# Altium schematic symbol library Library 3D.SchLib: 259 symbols (part 1 of 2)
Pins are listed as number, name and electrical type; pins without a type are passive.

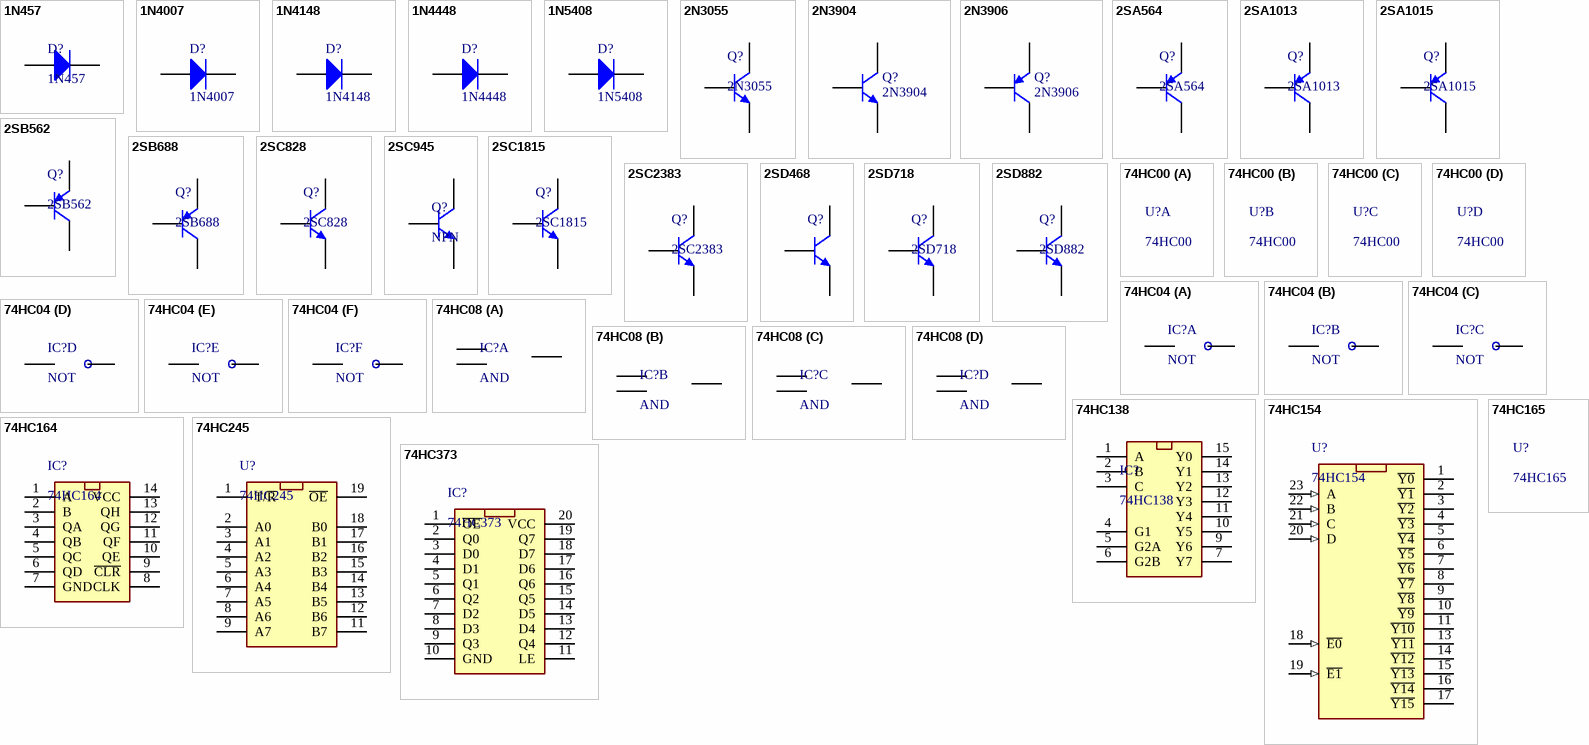
[diagram p0: symbols 1N457 to 74HC373]

## 1N457
designator D?
footprint DO 35
pins: 1 A, 2 K

## 1N4007
designator D?
Published: 8-Jun-2000; LatestRevisionDate: 17-Jul-2002; LatestRevisionNote: Re-released for DXP Platform.; DatasheetVersion: 1998; PackageVersion: Aug-1999; PackageReference: DO-41; Publisher: Altium Limited; PackageDescription: Diode, Axial; Body 5.2 x 2.7 mm (LxDia. max), Lead Dia. 0.86 mm (max); Code_JEDEC: DO-204-AL; ComponentLink1Description: Manufacturer Link; ComponentLink1URL: http://www.fairchildsemi.com/; ComponentLink2Description: Datasheet; ComponentLink2URL: http://www.fairchildsemi.com/ds/1N%2F1N4001.pdf
footprint 1N4007
footprint 1N4003
footprint SOD-123
pins: 1 A, 2 K

## 1N4148
designator D?
Published: 8-Jun-2000; LatestRevisionDate: 17-Jul-2002; LatestRevisionNote: Re-released for DXP Platform.; DatasheetVersion: 1997; PackageReference: DO-35; Publisher: Altium Limited; PackageDescription: Diode, Axial; Body 3.8 x 1.9 mm (LxDia. max), Lead Dia. 0.53 mm (max); Code_JEDEC: DO-204-AH; ComponentLink1Description: Manufacturer Link; ComponentLink1URL: http://www.fairchildsemi.com/; ComponentLink2Description: Datasheet; ComponentLink2URL: http://www.fairchildsemi.com/ds/1N%2F1N4148.pdf
footprint 1N4148
footprint SOD123
footprint SOD-123
footprint SOD80
pins: 1 A, 2 K

## 1N4448
designator D?
Published: 8-Jun-2000; LatestRevisionDate: 17-Jul-2002; LatestRevisionNote: Re-released for DXP Platform.; DatasheetVersion: 1997; PackageReference: DO-35; Publisher: Altium Limited; PackageDescription: Diode, Axial; Body 3.8 x 1.9 mm (LxDia. max), Lead Dia. 0.53 mm (max); Code_JEDEC: DO-204-AH; ComponentLink1Description: Manufacturer Link; ComponentLink1URL: http://www.fairchildsemi.com/; ComponentLink2Description: Datasheet; ComponentLink2URL: http://www.fairchildsemi.com/ds/1N%2F1N4448.pdf
footprint DO 35
pins: 1 A, 2 K

## 1N5408
designator D?
Published: 8-Jun-2000; LatestRevisionDate: 17-Jul-2002; LatestRevisionNote: Re-released for DXP Platform.; DatasheetVersion: Aug-1984; PackageReference: DO-201AD; Publisher: Altium Limited; PackageDescription: Diode, Axial; Body 9.5 x 5.3 mm (LxDia. max), Lead Dia. 1.32 mm (max); ComponentLink1Description: Manufacturer Link; ComponentLink1URL: http://www.irf.com/
footprint 1N5408
pins: 1 A, 2 K

## 2N3055
designator Q?
footprint TO03
pins: 1 E, 2 B, 3 C

## 2N3904
designator Q?
Published: 8-Jun-2000; LatestRevisionDate: 15-Jan-2003; LatestRevisionNote: PCB Footprint 'BCY-W3/D4.7' replaced; DatasheetVersion: 1997; PackageVersion: Sep-1998; PackageReference: TO-92A; Publisher: Altium Limited; PackageDescription: TO, Flat Index; 3 In-Line, Axial Leads; Body Dia. 4.5mm; Leads 0.51 x 0.48 mm (max); ComponentLink1Description: Manufacturer Link; ComponentLink1URL: http://www.fairchildsemi.com/; ComponentLink2Description: Datasheet; ComponentLink2URL: http://www.fairchildsemi.com/ds/2N%2F2N3904.pdf
footprint TO92A
pins: 1 E, 2 B, 3 C

## 2N3906
designator Q?
Published: 8-Jun-2000; LatestRevisionDate: 15-Jan-2003; LatestRevisionNote: PCB Footprint 'BCY-W3/D4.7' replaced; DatasheetVersion: 1997; PackageVersion: Sep-1998; PackageReference: TO-92A; Publisher: Altium Limited; PackageDescription: TO, Flat Index; 3 In-Line, Axial Leads; Body Dia. 4.5mm; Leads 0.51 x 0.48 mm (max); ComponentLink1Description: Manufacturer Link; ComponentLink1URL: http://www.fairchildsemi.com/; ComponentLink2Description: Datasheet; ComponentLink2URL: http://www.fairchildsemi.com/ds/2N%2F2N3906.pdf
footprint TO92A
pins: 1 E, 2 B, 3 C

## 2SA564
designator Q?
footprint TO92A
pins: 1 E, 2 C, 3 B

## 2SA1013
designator Q?
footprint TO226A
footprint SOT23-3
pins: 1 E, 2 C, 3 B

## 2SA1015
designator Q?
footprint TO92A
pins: 1 E, 2 C, 3 B

## 2SB562
designator Q?
footprint TO226A
pins: 1 E, 2 C, 3 B

## 2SB688
designator Q?
footprint TO3P
pins: 1 B, 2 C, 3 E

## 2SC828
designator Q?
footprint TO92A
pins: 1 E, 2 C, 3 B

## 2SC945
designator Q?, comment NPN
footprint TO92A
pins: 1 E, 2 C, 3 B

## 2SC1815
designator Q?
footprint TO92A
pins: 1 E, 2 C, 3 B

## 2SC2383
designator Q?
footprint TO226A
pins: 1 E, 2 C, 3 B

## 2SD468
designator Q?
footprint TO226A
pins: 1 E, 2 C, 3 B

## 2SD718
designator Q?
footprint TO3P
pins: 1 B, 2 C, 3 E

## 2SD882
designator Q?
footprint TO126
pins: 1 E, 2 C, 3 B

## 74HC00
designator U?

## 74HC04
designator IC?, comment NOT
footprint DIP14
footprint SSOP 14
footprint TSSOP 14
part A pins: 1, 2, 7 GND hidden to GND, 14 VCC hidden to VCC
part B pins: 3, 4
part C pins: 5, 6
part D pins: 8, 9
part E pins: 10, 11
part F pins: 12, 13

## 74HC08
designator IC?, comment AND
footprint DIP14
footprint SOIC 14
footprint TSSOP 14
part A pins: 1, 2, 3, 7 GND hidden to GND, 14 VCC hidden to VCC
part B pins: 4, 5, 6
part C pins: 8, 9, 10
part D pins: 11, 12, 13

## 74HC138
designator IC?
footprint DIP16
footprint SOIC 16
pins: 1 A, 2 B, 3 C, 4 G1, 5 G2A, 6 G2B, 7 Y7, 8 GND (power) hidden to GND, 9 Y6, 10 Y5, 11 Y4, 12 Y3, 13 Y2, 14 Y1, 15 Y0, 16 VCC hidden to VCC

## 74HC154
designator U?
footprint DIP24_600
footprint SSOP 24
pins: 1 ~{Y0}, 2 ~{Y1}, 3 ~{Y2}, 4 ~{Y3}, 5 ~{Y4}, 6 ~{Y5}, 7 ~{Y6}, 8 ~{Y7}, 9 ~{Y8}, 10 ~{Y9}, 11 ~{Y10}, 12 GND (power) hidden to GND, 13 ~{Y11}, 14 ~{Y12}, 15 ~{Y13}, 16 ~{Y14}, 17 ~{Y15}, 18 ~{E0} (in), 19 ~{E1} (in), 20 D (in), 21 C (in), 22 B (in), 23 A (in), 24 VCC (power) hidden to VCC

## 74HC164
designator IC?
footprint DIP14
footprint SOIC 14
pins: 1 A, 2 B, 3 QA, 4 QB, 5 QC, 6 QD, 7 GND, 8 CLK, 9 ~{CLR}, 10 QE, 11 QF, 12 QG, 13 QH, 14 VCC

## 74HC165
designator U?

## 74HC245
designator U?
footprint DIP20
footprint SO20
pins: 1 T/~{R}, 2 A0, 3 A1, 4 A2, 5 A3, 6 A4, 7 A5, 8 A6, 9 A7, 11 B7, 12 B6, 13 B5, 14 B4, 15 B3, 16 B2, 17 B1, 18 B0, 19 ~{OE}

## 74HC373
designator IC?
footprint DIP20
footprint SO20
pins: 1 ~{OE}, 2 Q0, 3 D0, 4 D1, 5 Q1, 6 Q2, 7 D2, 8 D3, 9 Q3, 10 GND, 11 LE, 12 Q4, 13 D4, 14 D5, 15 Q5, 16 Q6, 17 D6, 18 D7, 19 Q7, 20 VCC

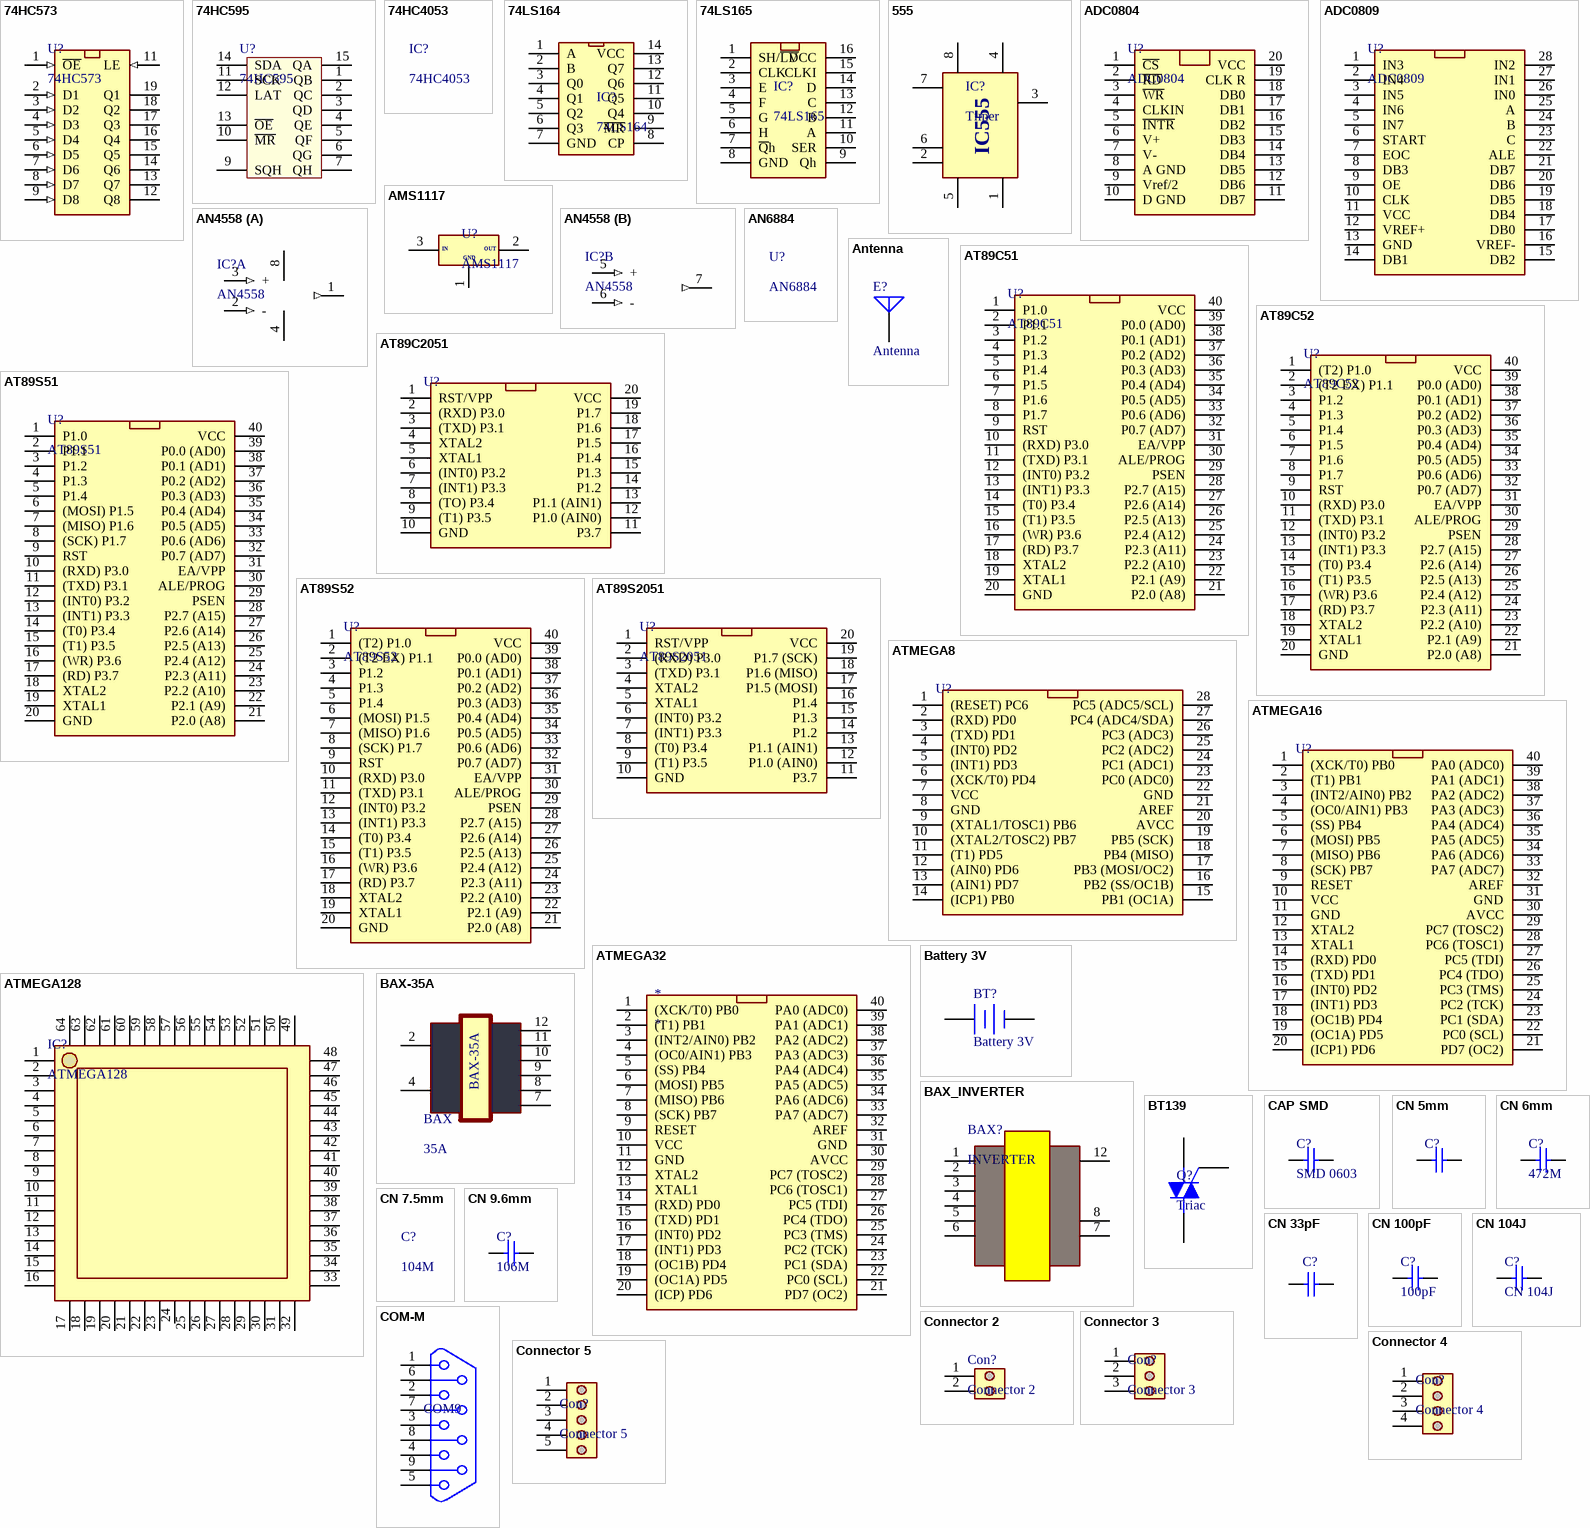
[diagram p1: symbols 74HC573 to Connector 5]

## 74HC573
designator U?
footprint DIP20
footprint SO20
pins: 1 ~{OE} (in), 2 D1 (in), 3 D2 (in), 4 D3 (in), 5 D4 (in), 6 D5 (in), 7 D6 (in), 8 D7 (in), 9 D8 (in), 11 LE (in), 12 Q8 (hiz), 13 Q7 (hiz), 14 Q6 (hiz), 15 Q5 (hiz), 16 Q4 (hiz), 17 Q3 (hiz), 18 Q2 (hiz), 19 Q1 (hiz)

## 74HC595
designator U?
footprint DIP16
footprint SO16
pins: 1 QB, 2 QC, 3 QD, 4 QE, 5 QF, 6 QG, 7 QH, 8 (power) hidden to GND, 9 SQH "OUTPUT", 10 ~{MR} "OUTPUT", 11 SCK "OUTPUT", 12 LAT "OUTPUT", 13 ~{OE} "OUTPUT", 14 SDA "OUTPUT", 15 QA, 16 (power) hidden to VCC

## 74HC4053
designator IC?

## 74LS164
designator IC?
footprint DIP14
footprint SOIC 14
pins: 1 A, 2 B, 3 Q0, 4 Q1, 5 Q2, 6 Q3, 7 GND, 8 CP, 9 ~{MR}, 10 Q4, 11 Q5, 12 Q6, 13 Q7, 14 VCC

## 74LS165
designator IC?
footprint DIP16
footprint SOIC 16
pins: 1 SH/~{LD}, 2 CLK, 3 E, 4 F, 5 G, 6 H, 7 ~{Q}h, 8 GND, 9 Qh, 10 SER, 11 A, 12 B, 13 C, 14 D, 15 CLKI, 16 VCC

## 555
designator IC?, comment Timer
footprint DIP8
pins: 1, 2, 3, 4, 5, 6, 7, 8
text: IC555

## ADC0804
designator U?
footprint DIP20
pins: 1 ~{CS}, 2 ~{RD}, 3 ~{WR}, 4 CLKIN, 5 ~{INTR}, 6 V+, 7 V-, 8 A GND, 9 Vref/2, 10 D GND, 11 DB7, 12 DB6, 13 DB5, 14 DB4, 15 DB3, 16 DB2, 17 DB1, 18 DB0, 19 CLK R, 20 VCC

## ADC0809
designator U?
footprint DIP28_600
pins: 1 IN3, 2 IN4, 3 IN5, 4 IN6, 5 IN7, 6 START, 7 EOC, 8 DB3, 9 OE, 10 CLK, 11 VCC, 12 VREF+, 13 GND, 14 DB1, 15 DB2, 16 VREF-, 17 DB0, 18 DB4, 19 DB5, 20 DB6, 21 DB7, 22 ALE, 23 C, 24 B, 25 A, 26 IN0, 27 IN1, 28 IN2

## AMS1117
designator U?
footprint TO252-3
footprint SOIC 8
footprint SOT223_L
pins: 1 GND, 2 OUT, 3 GND
text: IN

## AN4558
designator IC?
footprint DIP8
part A pins: 1 (out), 2 - (in), 3 + (in), 4 GND, 8 VCC
part B pins: 5 + (in), 6 - (in), 7 1 (out)

## AN6884
designator U?

## Antenna
designator E?
Published: 24-Mar-1999; LatestRevisionDate: 17-Jul-2002; LatestRevisionNote: Re-released for DXP Platform.; PackageReference: PIN1; Publisher: Altium Limited
pins: 1 A

## AT89C51
designator U?
footprint DIP40
pins: 1 P1.0, 2 P1.1, 3 P1.2, 4 P1.3, 5 P1.4, 6 P1.5, 7 P1.6, 8 P1.7, 9 RST, 10 (RXD) P3.0, 11 (TXD) P3.1, 12 (INT0) P3.2, 13 (INT1) P3.3, 14 (T0) P3.4, 15 (T1) P3.5, 16 (WR) P3.6, 17 (RD) P3.7, 18 XTAL2, 19 XTAL1, 20 GND, 21 P2.0 (A8), 22 P2.1 (A9), 23 P2.2 (A10), 24 P2.3 (A11), 25 P2.4 (A12), 26 P2.5 (A13), 27 P2.6 (A14), 28 P2.7 (A15), 29 PSEN, 30 ALE/PROG, 31 EA/VPP, 32 P0.7 (AD7), 33 P0.6 (AD6), 34 P0.5 (AD5), 35 P0.4 (AD4), 36 P0.3 (AD3), 37 P0.2 (AD2), 38 P0.1 (AD1), 39 P0.0 (AD0), 40 VCC

## AT89C52
designator U?
footprint DIP40
pins: 1 (T2) P1.0, 2 (T2 EX) P1.1, 3 P1.2, 4 P1.3, 5 P1.4, 6 P1.5, 7 P1.6, 8 P1.7, 9 RST, 10 (RXD) P3.0, 11 (TXD) P3.1, 12 (INT0) P3.2, 13 (INT1) P3.3, 14 (T0) P3.4, 15 (T1) P3.5, 16 (WR) P3.6, 17 (RD) P3.7, 18 XTAL2, 19 XTAL1, 20 GND, 21 P2.0 (A8), 22 P2.1 (A9), 23 P2.2 (A10), 24 P2.3 (A11), 25 P2.4 (A12), 26 P2.5 (A13), 27 P2.6 (A14), 28 P2.7 (A15), 29 PSEN, 30 ALE/PROG, 31 EA/VPP, 32 P0.7 (AD7), 33 P0.6 (AD6), 34 P0.5 (AD5), 35 P0.4 (AD4), 36 P0.3 (AD3), 37 P0.2 (AD2), 38 P0.1 (AD1), 39 P0.0 (AD0), 40 VCC

## AT89C2051
designator U?
footprint DIP20
pins: 1 RST/VPP, 2 (RXD) P3.0, 3 (TXD) P3.1, 4 XTAL2, 5 XTAL1, 6 (INT0) P3.2, 7 (INT1) P3.3, 8 (TO) P3.4, 9 (T1) P3.5, 10 GND, 11 P3.7, 12 P1.0 (AIN0), 13 P1.1 (AIN1), 14 P1.2, 15 P1.3, 16 P1.4, 17 P1.5, 18 P1.6, 19 P1.7, 20 VCC

## AT89S51
designator U?
footprint DIP40
pins: 1 P1.0, 2 P1.1, 3 P1.2, 4 P1.3, 5 P1.4, 6 (MOSI) P1.5, 7 (MISO) P1.6, 8 (SCK) P1.7, 9 RST, 10 (RXD) P3.0, 11 (TXD) P3.1, 12 (INT0) P3.2, 13 (INT1) P3.3, 14 (T0) P3.4, 15 (T1) P3.5, 16 (WR) P3.6, 17 (RD) P3.7, 18 XTAL2, 19 XTAL1, 20 GND, 21 P2.0 (A8), 22 P2.1 (A9), 23 P2.2 (A10), 24 P2.3 (A11), 25 P2.4 (A12), 26 P2.5 (A13), 27 P2.6 (A14), 28 P2.7 (A15), 29 PSEN, 30 ALE/PROG, 31 EA/VPP, 32 P0.7 (AD7), 33 P0.6 (AD6), 34 P0.5 (AD5), 35 P0.4 (AD4), 36 P0.3 (AD3), 37 P0.2 (AD2), 38 P0.1 (AD1), 39 P0.0 (AD0), 40 VCC

## AT89S52
designator U?
footprint DIP40
pins: 1 (T2) P1.0, 2 (T2 EX) P1.1, 3 P1.2, 4 P1.3, 5 P1.4, 6 (MOSI) P1.5, 7 (MISO) P1.6, 8 (SCK) P1.7, 9 RST, 10 (RXD) P3.0, 11 (TXD) P3.1, 12 (INT0) P3.2, 13 (INT1) P3.3, 14 (T0) P3.4, 15 (T1) P3.5, 16 (WR) P3.6, 17 (RD) P3.7, 18 XTAL2, 19 XTAL1, 20 GND, 21 P2.0 (A8), 22 P2.1 (A9), 23 P2.2 (A10), 24 P2.3 (A11), 25 P2.4 (A12), 26 P2.5 (A13), 27 P2.6 (A14), 28 P2.7 (A15), 29 PSEN, 30 ALE/PROG, 31 EA/VPP, 32 P0.7 (AD7), 33 P0.6 (AD6), 34 P0.5 (AD5), 35 P0.4 (AD4), 36 P0.3 (AD3), 37 P0.2 (AD2), 38 P0.1 (AD1), 39 P0.0 (AD0), 40 VCC

## AT89S2051
designator U?
footprint DIP20
pins: 1 RST/VPP, 2 (RXD) P3.0, 3 (TXD) P3.1, 4 XTAL2, 5 XTAL1, 6 (INT0) P3.2, 7 (INT1) P3.3, 8 (T0) P3.4, 9 (T1) P3.5, 10 GND, 11 P3.7, 12 P1.0 (AIN0), 13 P1.1 (AIN1), 14 P1.2, 15 P1.3, 16 P1.4, 17 P1.5 (MOSI), 18 P1.6 (MISO), 19 P1.7 (SCK), 20 VCC

## ATMEGA8
designator U?
footprint DIP28
footprint TQFP32
pins: 1 (RESET) PC6, 2 (RXD) PD0, 3 (TXD) PD1, 4 (INT0) PD2, 5 (INT1) PD3, 6 (XCK/T0) PD4, 7 VCC, 8 GND, 9 (XTAL1/TOSC1) PB6, 10 (XTAL2/TOSC2) PB7, 11 (T1) PD5, 12 (AIN0) PD6, 13 (AIN1) PD7, 14 (ICP1) PB0, 15 PB1 (OC1A), 16 PB2 (SS/OC1B), 17 PB3 (MOSI/OC2), 18 PB4 (MISO), 19 PB5 (SCK), 20 AVCC, 21 AREF, 22 GND, 23 PC0 (ADC0), 24 PC1 (ADC1), 25 PC2 (ADC2), 26 PC3 (ADC3), 27 PC4 (ADC4/SDA), 28 PC5 (ADC5/SCL)

## ATMEGA16
designator U?
footprint DIP40
footprint TQFP44
pins: 1 (XCK/T0) PB0, 2 (T1) PB1, 3 (INT2/AIN0) PB2, 4 (OC0/AIN1) PB3, 5 (SS) PB4, 6 (MOSI) PB5, 7 (MISO) PB6, 8 (SCK) PB7, 9 RESET, 10 VCC, 11 GND, 12 XTAL2, 13 XTAL1, 14 (RXD) PD0, 15 (TXD) PD1, 16 (INT0) PD2, 17 (INT1) PD3, 18 (OC1B) PD4, 19 (OC1A) PD5, 20 (ICP1) PD6, 21 PD7 (OC2), 22 PC0 (SCL), 23 PC1 (SDA), 24 PC2 (TCK), 25 PC3 (TMS), 26 PC4 (TDO), 27 PC5 (TDI), 28 PC6 (TOSC1), 29 PC7 (TOSC2), 30 AVCC, 31 GND, 32 AREF, 33 PA7 (ADC7), 34 PA6 (ADC6), 35 PA5 (ADC5), 36 PA4 (ADC4), 37 PA3 (ADC3), 38 PA2 (ADC2), 39 PA1 (ADC1), 40 PA0 (ADC0)

## ATMEGA32
designator *
footprint DIP40
footprint TQFP44
pins: 1 (XCK/T0) PB0, 2 (T1) PB1, 3 (INT2/AIN0) PB2, 4 (OC0/AIN1) PB3, 5 (SS) PB4, 6 (MOSI) PB5, 7 (MISO) PB6, 8 (SCK) PB7, 9 RESET, 10 VCC, 11 GND, 12 XTAL2, 13 XTAL1, 14 (RXD) PD0, 15 (TXD) PD1, 16 (INT0) PD2, 17 (INT1) PD3, 18 (OC1B) PD4, 19 (OC1A) PD5, 20 (ICP) PD6, 21 PD7 (OC2), 22 PC0 (SCL), 23 PC1 (SDA), 24 PC2 (TCK), 25 PC3 (TMS), 26 PC4 (TDO), 27 PC5 (TDI), 28 PC6 (TOSC1), 29 PC7 (TOSC2), 30 AVCC, 31 GND, 32 AREF, 33 PA7 (ADC7), 34 PA6 (ADC6), 35 PA5 (ADC5), 36 PA4 (ADC4), 37 PA3 (ADC3), 38 PA2 (ADC2), 39 PA1 (ADC1), 40 PA0 (ADC0)

## ATMEGA128
designator IC?
footprint TQFP64
pins: 1, 2, 3, 4, 5, 6, 7, 8, 9, 10, 11, 12, 13, 14, 15, 16, 17, 18, 19, 20, 21, 22, 23, 24, 25, 26, 27, 28, 29, 30, 31, 32, 33, 34, 35, 36, 37, 38, 39, 40, 41, 42, 43, 44, 45, 46, 47, 48, 49, 50, 51, 52, 53, 54, 55, 56, 57, 58, 59, 60, 61, 62, 63, 64

## Battery 3V
designator BT?
Published: 24-Mar-1999; LatestRevisionDate: 17-Jul-2002; LatestRevisionNote: Re-released for DXP Platform.; PackageReference: BAT-2; Publisher: Altium Limited; PackageDescription: Battery; 2 Leads
footprint PIN_3V
pins: 1 +, 2 -

## BAX-35A
designator BAX, comment 35A
footprint BAX-35A
pins: 2, 4, 7, 8, 9, 10, 11, 12

## BAX_INVERTER
designator BAX?, comment INVERTER
footprint BAX_INVERTER
pins: 1, 2, 3, 4, 5, 6, 7, 8, 12

## BT139
designator Q?, comment Triac
footprint TO220AB
pins: 1 T1, 2 T2, 3 G

## CAP SMD
designator C?, comment SMD 0603
footprint CAP SMD 0603
footprint SMD CAPACITOR0201
footprint SMD CAPACITOR0402
footprint SMD CAPACITOR0603
footprint SMD CAPACITOR0805
footprint SMD CAPACITOR1206
footprint SMD CAPACITOR1808
footprint SMD CAPACITOR1812
footprint SMD CAPACITOR0603
pins: 1, 2

## CN 5mm
designator C?
footprint CN1
pins: 1, 2

## CN 6mm
designator C?, comment 472M
footprint CN 472/3KV
pins: 1, 2

## CN 7.5mm
designator C?, comment 104M
footprint CN2

## CN 9.6mm
designator C?, comment 106M
footprint CN3
pins: 1, 2

## CN 33pF
designator C?
Published: 8-Jun-2000; LatestRevisionDate: 17-Jul-2002; LatestRevisionNote: Re-released for DXP Platform.; PackageReference: RAD-0.3; Publisher: Altium Limited; PackageDescription: Radial Cap, Thru-Hole; 2 Leads; 0.3 in Pin Spacing
footprint CN5
footprint SMD CAPACITOR1206
pins: 1, 2

## CN 100pF
designator C?, comment 100pF
footprint CN4
footprint SMD CAPACITOR1206
pins: 1, 2

## CN 104J
designator C?
footprint CN4 104J
pins: 1, 2

## COM-M
designator COM9
footprint COM 9M
footprint COM 9F
pins: 1, 2, 3, 4, 5, 6, 7, 8, 9

## Connector 2
designator Con?
footprint CON 2
pins: 1, 2

## Connector 3
designator Con?
footprint CON 3
pins: 1, 2, 3

## Connector 4
designator Con?
footprint CON 4
pins: 1, 2, 3, 4

## Connector 5
designator Con?
footprint CON 5
pins: 1, 2, 3, 4, 5

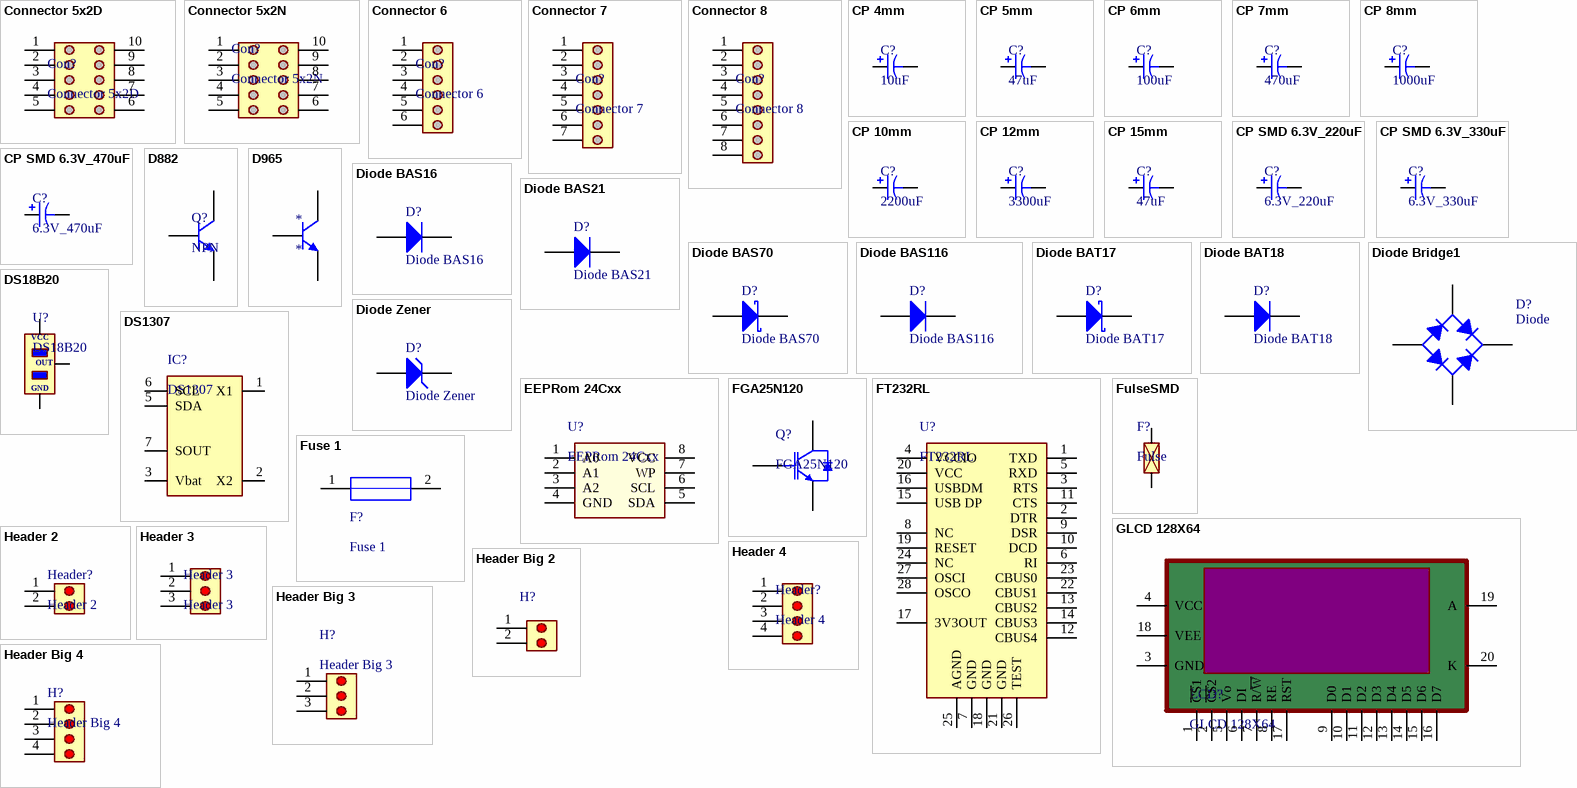
[diagram p2: symbols Connector 5x2D to Header Big 4]

## Connector 5x2D
designator Con?
footprint CONNECTOR_5X2_T
pins: 1, 2, 3, 4, 5, 6, 7, 8, 9, 10

## Connector 5x2N
designator Con?
footprint CONNECTOR_5X2_N
pins: 1, 2, 3, 4, 5, 6, 7, 8, 9, 10

## Connector 6
designator Con?
footprint CON 6
pins: 1, 2, 3, 4, 5, 6

## Connector 7
designator Con?
footprint CON 7
pins: 1, 2, 3, 4, 5, 6, 7

## Connector 8
designator Con?
footprint CON 8
pins: 1, 2, 3, 4, 5, 6, 7, 8

## CP 4mm
designator C?, comment 10uF
footprint CP 4mm
footprint CAP SMD SVP 4.0x5.4
footprint CAP SMD SVP 5.0x5.9
pins: 1, 2

## CP 5mm
designator C?, comment 47uF
footprint CP 5mm
pins: 1, 2

## CP 6mm
designator C?, comment 100uF
footprint CP 6mm
pins: 1, 2

## CP 7mm
designator C?, comment 470uF
footprint CP 7mm
pins: 1, 2

## CP 8mm
designator C?, comment 1000uF
footprint CP 8mm
pins: 1, 2

## CP 10mm
designator C?, comment 2200uF
footprint CP 10mm
pins: 1, 2

## CP 12mm
designator C?, comment 3300uF
footprint CP 12mm
pins: 1, 2

## CP 15mm
designator C?, comment 47uF
footprint CP 22mm
pins: 1, 2

## CP SMD 6.3V_220uF
designator C?, comment 6.3V_220uF
footprint Capacitors 220uF 6,3V
pins: 1, 2

## CP SMD 6.3V_330uF
designator C?, comment 6.3V_330uF
footprint Capacitors 330uF 6,3V
pins: 1, 2

## CP SMD 6.3V_470uF
designator C?, comment 6.3V_470uF
footprint Capacitors 470uF 6,3V
pins: 1, 2

## D882
designator Q?, comment NPN
footprint TO126
pins: 1 E, 2 C, 3 B

## D965
designator *
footprint TO92A
pins: 1 E, 2 C, 3 B

## Diode BAS16
designator D?
Note: Pin 2 is not connected and not drawn.; Published: 21-Mar-2003; LatestRevisionDate: 29-May-2009; LatestRevisionNote: IPC-7351 Footprint Added.; DatasheetVersion: Oct-1999; PackageVersion: Sep-2001; PackageReference: SOT-23; Publisher: Altium Limited; PackageDescription: 3-Pin SOT-23 Package 0.95 mm Pitch, 2.5 mm Lead Span; ComponentLink1Description: Manufacturer Link; ComponentLink1URL: http://www.infineon.com/; ComponentLink2Description: Datasheet; ComponentLink2URL: http://www.infineon.com/upload/Document/cmc_upload/documents/012/5331/bas16series.pdf
footprint SOT23-3
pins: 1 A, 3 K

## Diode BAS21
designator D?
Note: Pin 2 is not connected and not drawn.; Published: 21-Mar-2003; LatestRevisionDate: 29-May-2009; LatestRevisionNote: IPC-7351 Footprint Added.; DatasheetVersion: Oct-1999; PackageVersion: Sep-2001; PackageReference: SOT-23; Publisher: Altium Limited; PackageDescription: 3-Pin SOT-23 Package 0.95 mm Pitch, 2.5 mm Lead Span; ComponentLink1Description: Manufacturer Link; ComponentLink1URL: http://www.infineon.com/; ComponentLink2Description: Datasheet; ComponentLink2URL: http://www.infineon.com/upload/Document/cmc_upload/documents/080/812/bas21series.pdf
footprint SOT23-3
pins: 1 A, 3 K

## Diode BAS70
designator D?
Note: Pin 2 is not connected and not drawn.; Published: 21-Mar-2003; LatestRevisionDate: 29-May-2009; LatestRevisionNote: IPC-7351 Footprint Added.; DatasheetVersion: Oct-1999; PackageVersion: Sep-2001; PackageReference: SOT-23; Publisher: Altium Limited; PackageDescription: 3-Pin SOT-23 Package 0.95 mm Pitch, 2.5 mm Lead Span; ComponentLink1Description: Manufacturer Link; ComponentLink1URL: http://www.infineon.com/; ComponentLink2Description: Datasheet; ComponentLink2URL: http://www.infineon.com/upload/Document/cmc_upload/documents/009/382/bas40_bas140series_1.pdf
footprint SOT23-3
pins: 1 A, 3 K

## Diode BAS116
designator D?
Note: Pin 2 is not connected and not drawn.; Published: 21-Mar-2003; LatestRevisionDate: 29-May-2009; LatestRevisionNote: IPC-7351 Footprint Added.; DatasheetVersion: Oct-1999; PackageVersion: Sep-2001; PackageReference: SOT-23; Publisher: Altium Limited; PackageDescription: 3-Pin SOT-23 Package 0.95 mm Pitch, 2.5 mm Lead Span; ComponentLink1Description: Manufacturer Link; ComponentLink1URL: http://www.infineon.com/; ComponentLink2Description: Datasheet; ComponentLink2URL: http://www.infineon.com/upload/Document/cmc_upload/documents/080/656/bas116series.pdf
footprint SOT23-3
pins: 1 A, 3 K

## Diode BAT17
designator D?
Note: Pin 2 is not connected and not drawn.; Published: 21-Mar-2003; LatestRevisionDate: 29-May-2009; LatestRevisionNote: IPC-7351 Footprint Added.; DatasheetVersion: Oct-1999; PackageVersion: Sep-2001; PackageReference: SOT-23; Publisher: Altium Limited; PackageDescription: 3-Pin SOT-23 Package 0.95 mm Pitch, 2.5 mm Lead Span; ComponentLink1Description: Manufacturer Link; ComponentLink1URL: http://www.infineon.com/; ComponentLink2Description: Datasheet; ComponentLink2URL: http://www.infineon.com/upload/Document/cmc_upload/documents/009/363/bat17series.pdf
footprint SOT23-3
pins: 1 A, 3 K

## Diode BAT18
designator D?
Note: Pin 2 is not connected and not drawn.; Published: 21-Mar-2003; LatestRevisionDate: 29-May-2009; LatestRevisionNote: IPC-7351 Footprint Added.; DatasheetVersion: Oct-1999; PackageVersion: Sep-2001; PackageReference: SOT-23; Publisher: Altium Limited; PackageDescription: 3-Pin SOT-23 Package 0.95 mm Pitch, 2.5 mm Lead Span; ComponentLink1Description: Manufacturer Link; ComponentLink1URL: http://www.infineon.com/
footprint SOT23-3
pins: 1 A, 3 K

## Diode Bridge1
designator D?, comment Diode
Published: 8-Jun-2000; LatestRevisionDate: 29-May-2009; LatestRevisionNote: Sch pins A & K swapped.; DatasheetVersion: E2732B; PackageReference: D-38; Publisher: Altium Limited; PackageDescription: Bridge Rectifier; 4 Terminals; Body 9.4 x 9.4 mm (typ); Pitch 5.08 mm
footprint DIODE_bridge_2a
footprint DIODE_BRIDGE_10A
pins: 1, 2, 3, 4

## Diode Zener
designator D?
Published: 8-Jun-2000; LatestRevisionDate: 17-Jul-2002; LatestRevisionNote: Re-released for DXP Platform.; PackageReference: DIODE-0.7; Publisher: Altium Limited; PackageDescription: Diode, Thru-Hole; 2 Leads; 0.7 in Pin Spacing
footprint Diode Zener
pins: 1 A, 2 K

## DS18B20
designator U?
footprint TO92A
pins: 1 GND, 2 OUT, 3 VCC

## DS1307
designator IC?
footprint SOIC 8
footprint DIP8
pins: 1 X1, 2 X2, 3 Vbat, 4 GND hidden to GND, 5 SDA, 6 SCL, 7 SOUT, 8 VCC hidden to VCC

## EEPRom 24Cxx
designator U?
footprint DIP8
pins: 1 A0, 2 A1, 3 A2, 4 GND (power), 5 SDA, 6 SCL, 7 WP, 8 VCC (power)

## FGA25N120
designator Q?
footprint TO3P
pins: 1 G, 2 C, 3 E

## FT232RL
designator U?
footprint SSOP 28
pins: 1 TXD, 2 DTR, 3 RTS, 4 VCCIO, 5 RXD, 6 RI, 7 GND, 8 NC, 9 DSR, 10 DCD, 11 CTS, 12 CBUS4, 13 CBUS2, 14 CBUS3, 15 USB DP, 16 USBDM, 17 3V3OUT, 18 GND, 19 RESET, 20 VCC, 21 GND, 22 CBUS1, 23 CBUS0, 24 NC, 25 AGND, 26 TEST, 27 OSCI, 28 OSCO

## FulseSMD
designator F?, comment Fulse
footprint SMD 1206
pins: 1, 2

## Fuse 1
designator F?
Published: 8-Jun-2000; LatestRevisionDate: 17-Jul-2002; LatestRevisionNote: Re-released for DXP Platform.; PackageReference: PIN-W2/E2.8; Publisher: Altium Limited; PackageDescription: Thru-Hole; 2 Leads
footprint FUSE1
footprint FUSE2
pins: 1, 2

## GLCD 128X64
designator LCD?
footprint LCD_128X64
pins: 1 ~{CS}1, 2 ~{CS}2, 3 GND, 4 VCC, 5 Vo, 6 DI, 7 R/~{W}, 8 RE, 9 D0, 10 D1, 11 D2, 12 D3, 13 D4, 14 D5, 15 D6, 16 D7, 17 RST, 18 VEE, 19 A, 20 K

## Header 2
designator Header?
footprint HEADER 2A
footprint HEADER 2B
pins: 1, 2

## Header 3
designator Header 3
footprint HEADER 3
pins: 1, 2, 3

## Header 4
designator Header?
footprint HEADER 4
pins: 1, 2, 3, 4

## Header Big 2
designator H?
footprint HEADER BIG 2
pins: 1, 2

## Header Big 3
designator H?
footprint HEADER BIG 3
pins: 1, 2, 3

## Header Big 4
designator H?
footprint HEADER BIG 4
pins: 1, 2, 3, 4

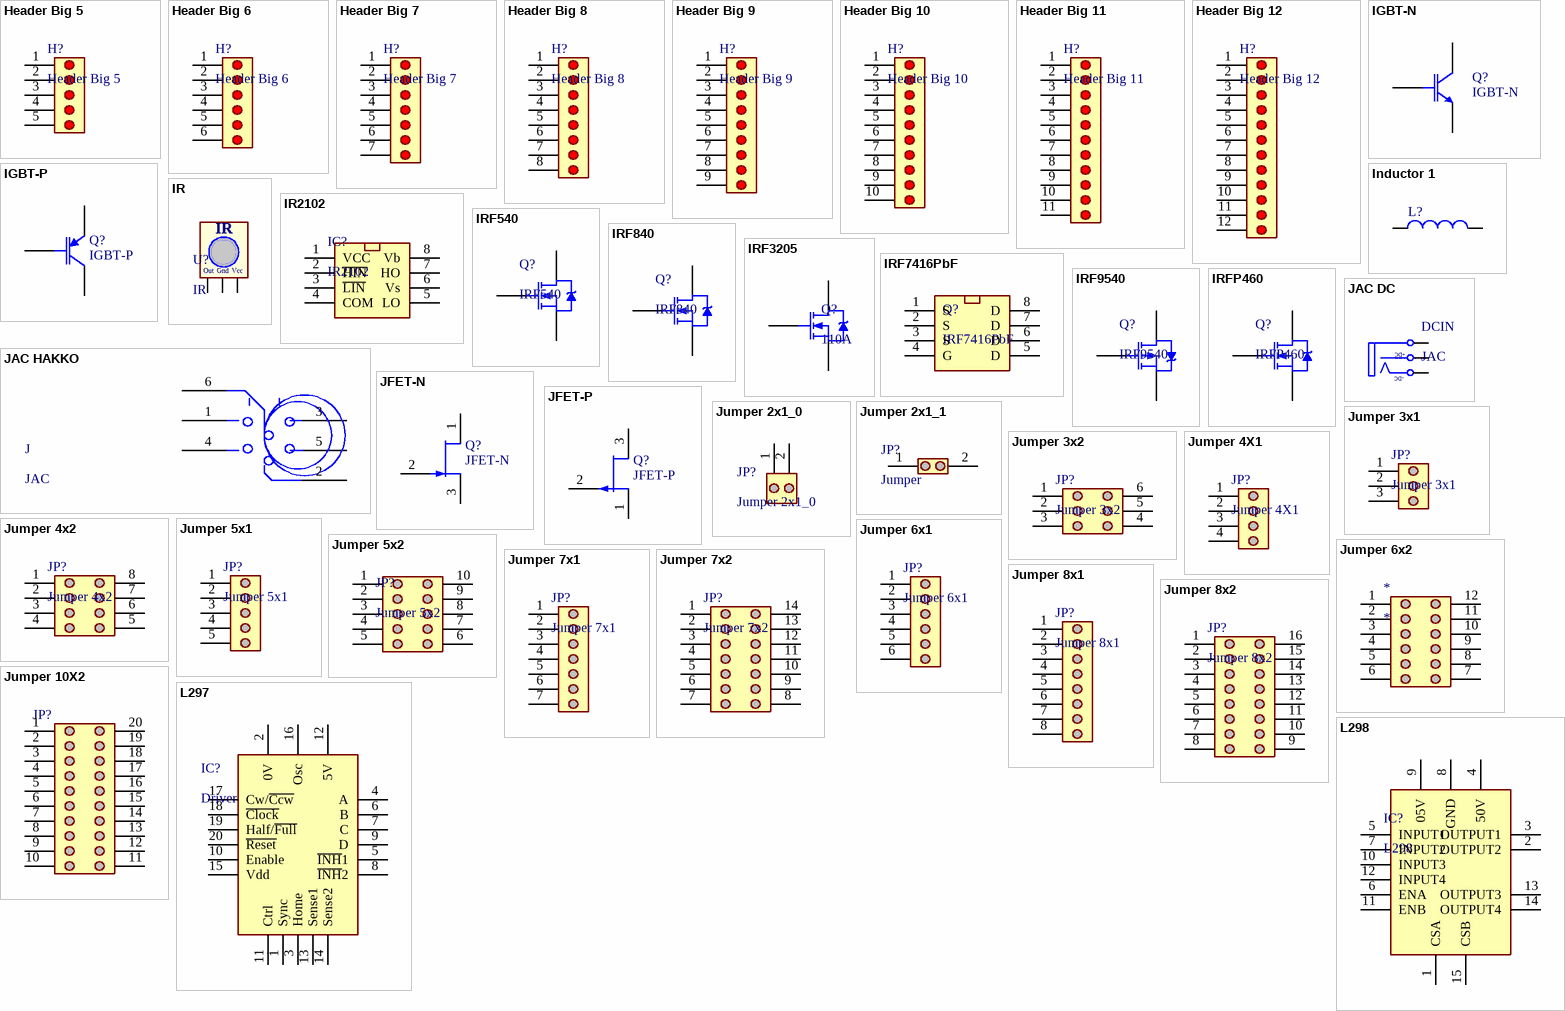
[diagram p3: symbols Header Big 5 to L298]

## Header Big 5
designator H?
footprint HEADER BIG 5
pins: 1, 2, 3, 4, 5

## Header Big 6
designator H?
footprint HEADER BIG 6
pins: 1, 2, 3, 4, 5, 6

## Header Big 7
designator H?
footprint HEADER BIG 7
pins: 1, 2, 3, 4, 5, 6, 7

## Header Big 8
designator H?
footprint HEADER BIG 8
pins: 1, 2, 3, 4, 5, 6, 7, 8

## Header Big 9
designator H?
footprint HEADER BIG 9
pins: 1, 2, 3, 4, 5, 6, 7, 8, 9

## Header Big 10
designator H?
footprint HEADER BIG 10
pins: 1, 2, 3, 4, 5, 6, 7, 8, 9, 10

## Header Big 11
designator H?
footprint HEADER BIG 11
pins: 1, 2, 3, 4, 5, 6, 7, 8, 9, 10, 11

## Header Big 12
designator H?
footprint HEADER BIG 12
pins: 1, 2, 3, 4, 5, 6, 7, 8, 9, 10, 11, 12

## IGBT-N
designator Q?
Published: 8-Jun-2000; LatestRevisionDate: 17-Jul-2002; LatestRevisionNote: Re-released for DXP Platform.; DatasheetVersion: PD-9.684A; PackageReference: TO-247; Publisher: Altium Limited; PackageDescription: SIP with Mounting Hole; 3 Leads; Body 20 x 15.6 x 5 mm (typ); Pitch 5.45 mm; Code_JEDEC: TO-247-AC; ComponentLink1Description: Manufacturer Link; ComponentLink1URL: http://www.irf.com/
footprint TO247
pins: 1 C, 2 G, 3 E

## IGBT-P
designator Q?
Published: 8-Jun-2000; LatestRevisionDate: 17-Jul-2002; LatestRevisionNote: Re-released for DXP Platform.; PackageReference: TO-264-AA; Publisher: Altium Limited; Code_JEDEC: TO-264-AA
footprint TO264
pins: 1 C, 2 G, 3 E

## Inductor 1
designator L?
Code_IEC: 1005; Published: 8-Jun-2000; LatestRevisionDate: 29-May-2009; LatestRevisionNote: IPC-7351 Footprint Added.; PackageReference: 0402-A; Publisher: Altium Limited; PackageDescription: Chip Inductor; Code_JEITA: 0402
footprint Inductor 10x12
pins: 1, 2

## IR
designator U?
footprint TSOP 1738
footprint TSOP 4838
pins: 1 Out, 2 GND, 3 VCC
text: Gnd; Vcc

## IR2102
designator IC?
footprint SOIC 8
footprint DIP8
pins: 1 VCC, 2 ~{HIN}, 3 ~{LIN}, 4 COM, 5 LO, 6 Vs, 7 HO, 8 Vb

## IRF540
designator Q?
footprint TO220A
footprint TO220AH1
pins: 1 G, 2 D, 3 S

## IRF840
designator Q?
footprint TO220A
pins: 1 G, 2 D, 3 S

## IRF3205
designator Q?, comment 110A
footprint TO220AB
pins: 1 G, 2 D, 3 S

## IRF7416PbF
designator Q?
footprint SOIC 8
pins: 1 S, 2 S, 3 S, 4 G, 5 D, 6 D, 7 D, 8 D

## IRF9540
designator Q?
footprint TO220A
pins: 1 G, 2 D, 3 S

## IRFP460
designator Q?
footprint TO247
pins: 1 G, 2 D, 3 S

## JAC DC
designator DCIN, comment JAC
footprint Jack DC
pins: 1 T "Tip", 2 S (power) "Sleeve (Ground)", 3 TN "Tip Normal (Break Contact)"
text: +DC; -DC

## JAC HAKKO
designator J, comment JAC
pins: 1, 2, 3, 4, 5, 6

## JFET-N
designator Q?
Published: 8-Jun-2000; LatestRevisionDate: 17-Jul-2002; LatestRevisionNote: Re-released for DXP Platform.; PackageReference: TO-254-AA; Publisher: Altium Limited; Code_JEDEC: TO-254-AA
footprint TO254
pins: 1 D, 2 G, 3 S

## JFET-P
designator Q?
Published: 8-Jun-2000; LatestRevisionDate: 17-Jul-2002; LatestRevisionNote: Re-released for DXP Platform.; PackageReference: TO-18A; Publisher: Altium Limited; PackageDescription: SC-89; 3 Flat Leads; Body 1.6 x 1.6 x 0.7 mm, inc leads (LxWxH typ)
footprint TO18
pins: 1 D, 2 G, 3 S

## Jumper 2x1_0
designator JP?
footprint JP2
pins: 1, 2

## Jumper 2x1_1
designator JP?, comment Jumper
footprint JP2
pins: 1, 2

## Jumper 3x1
designator JP?
footprint JP3
pins: 1, 2, 3

## Jumper 3x2
designator JP?
pins: 1, 2, 3, 4, 5, 6

## Jumper 4X1
designator JP?
footprint JP4
pins: 1, 2, 3, 4

## Jumper 4x2
designator JP?
footprint JP4x2
pins: 1, 2, 3, 4, 5, 6, 7, 8

## Jumper 5x1
designator JP?
footprint JP5
pins: 1, 2, 3, 4, 5

## Jumper 5x2
designator JP?
footprint JP5X2
pins: 1, 2, 3, 4, 5, 6, 7, 8, 9, 10

## Jumper 6x1
designator JP?
footprint JP6
pins: 1, 2, 3, 4, 5, 6

## Jumper 6x2
designator *
footprint JP6X2
pins: 1, 2, 3, 4, 5, 6, 7, 8, 9, 10, 11, 12

## Jumper 7x1
designator JP?
footprint JP7
pins: 1, 2, 3, 4, 5, 6, 7

## Jumper 7x2
designator JP?
footprint JP7X2
pins: 1, 2, 3, 4, 5, 6, 7, 8, 9, 10, 11, 12, 13, 14

## Jumper 8x1
designator JP?
footprint JP8
pins: 1, 2, 3, 4, 5, 6, 7, 8

## Jumper 8x2
designator JP?
footprint JP8x2
pins: 1, 2, 3, 4, 5, 6, 7, 8, 9, 10, 11, 12, 13, 14, 15, 16

## Jumper 10X2
designator JP?, comment Jumper 10x2  (value not drawn)
footprint CONNECTOR 10x2
pins: 1, 2, 3, 4, 5, 6, 7, 8, 9, 10, 11, 12, 13, 14, 15, 16, 17, 18, 19, 20

## L297
designator IC?, comment Driver
footprint DIP20
footprint SO20
pins: 1 Sync, 2 0V, 3 Home, 4 A, 5 ~{INH}1, 6 B, 7 C, 8 ~{INH}2, 9 D, 10 Enable, 11 Ctrl, 12 5V, 13 Sense1, 14 Sense2, 15 Vdd, 16 Osc, 17 Cw/~{Ccw}, 18 ~{Clock}, 19 Half/~{Full}, 20 ~{Reset}

## L298
designator IC?
footprint Multiwatt15
footprint SO20
pins: 1 CSA, 2 OUTPUT2, 3 OUTPUT1, 4 50V, 5 INPUT1, 6 ENA, 7 INPUT2, 8 GND, 9 05V, 10 INPUT3, 11 ENB, 12 INPUT4, 13 OUTPUT3, 14 OUTPUT4, 15 CSB

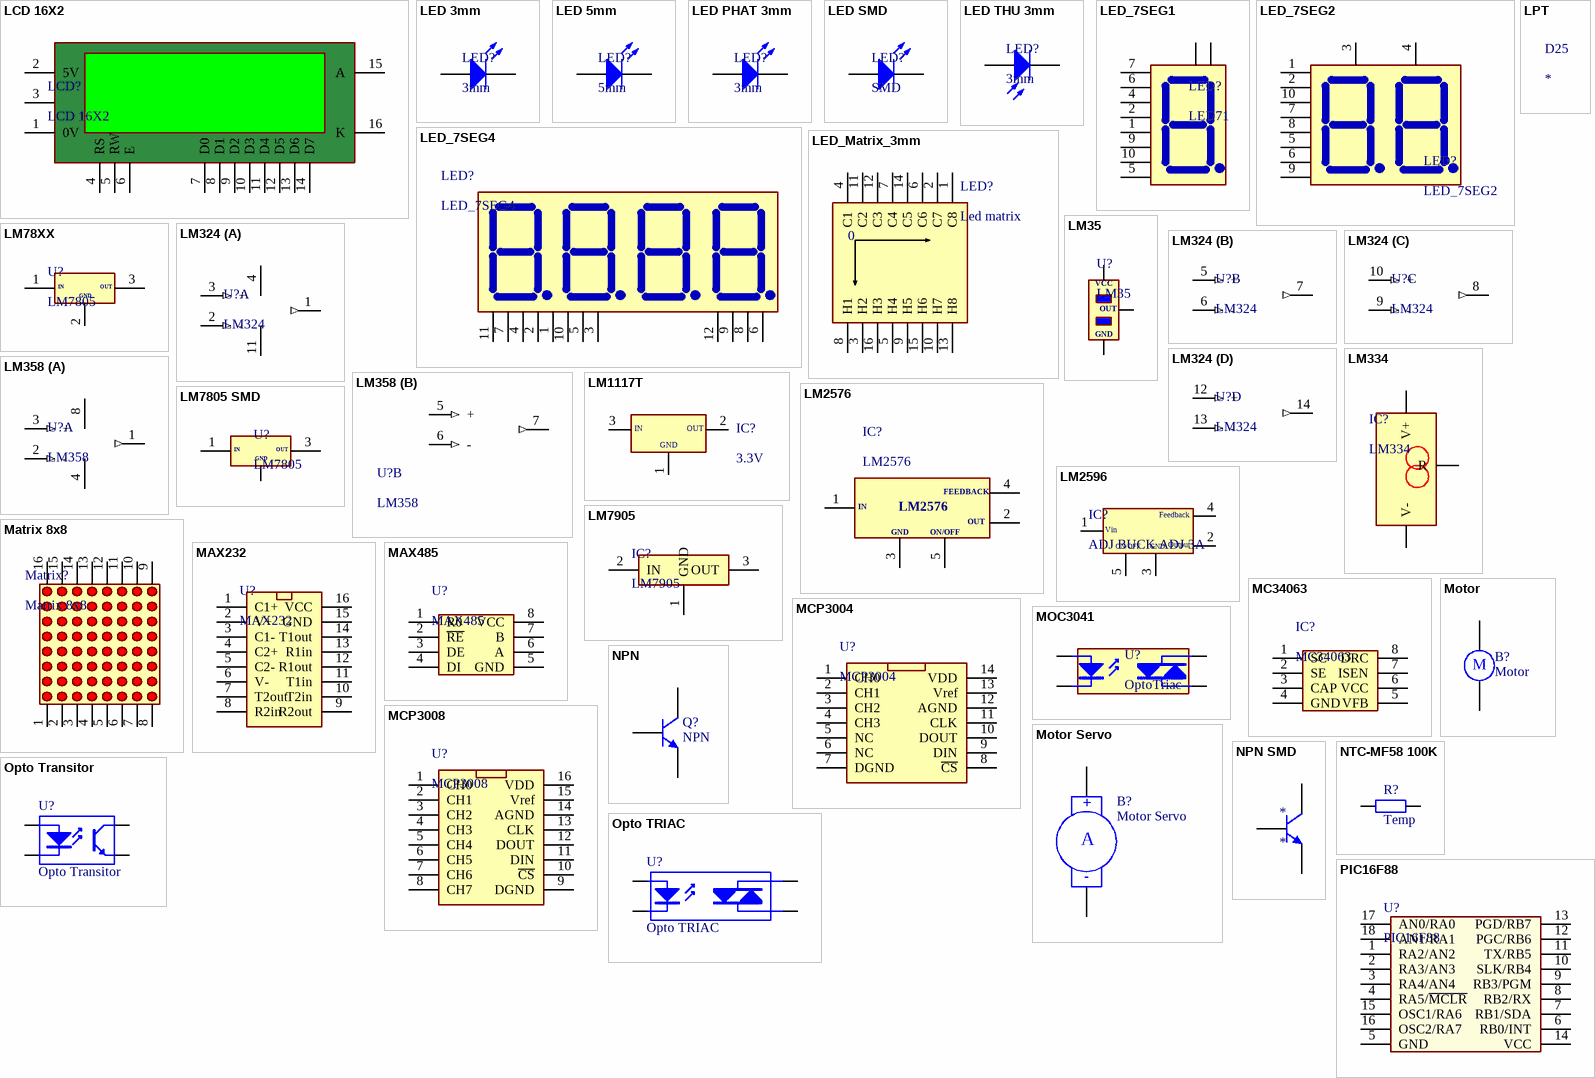
[diagram p4: symbols LCD 16X2 to PIC16F88]

## LCD 16X2
designator LCD?
footprint LCD_16x2
footprint LCD_16X2A
pins: 1 0V, 2 5V, 3 VEE, 4 RS, 5 RW, 6 E, 7 D0, 8 D1, 9 D2, 10 D3, 11 D4, 12 D5, 13 D6, 14 D7, 15 A, 16 K

## LED 3mm
designator LED?, comment 3mm
footprint LED 3mm Green
footprint LED 3mm RED
footprint LED 3mm YELLOW
pins: 1 A, 2 K

## LED 5mm
designator LED?, comment 5mm
footprint LED 5mm BLUE
footprint LED 5MM GREEN
footprint LED 5MM RED
footprint LED 5mm Yellow
pins: 1 A, 2 K

## LED PHAT 3mm
designator LED?, comment 3mm
footprint LED 3mm YELLOW
pins: 1 A, 2 K

## LED SMD
designator LED?, comment SMD
footprint LED SMD 1206
footprint LED SMD 0603
pins: 1 A, 2 K

## LED THU 3mm
designator LED?, comment 3mm
footprint LED 3mm RED
pins: 1 A, 2 K

## LED_7SEG1
designator LED?, comment LED71
footprint 7SEG 1
footprint 7SEG_1M
pins: 1, 2, 3 A, 4, 5, 6, 7, 8 A, 9, 10

## LED_7SEG2
designator LED?
footprint 7SEG 2
pins: 1, 2, 3 L1, 4 L2, 5, 6, 7, 8, 9, 10

## LED_7SEG4
designator LED?
footprint 7SEG 4
pins: 1, 2, 3, 4, 5, 6, 7, 8, 9, 10, 11, 12

## LED_Matrix_3mm
designator LED?, comment Led matrix
footprint LED_Matrix_3MM
pins: 1 C8, 2 C7, 3 H2, 4 C1, 5 H4, 6 C6, 7 C4, 8 H1, 9 H5, 10 H7, 11 C2, 12 C3, 13 H8, 14 C5, 15 H6, 16 H3
text: 0

## LM35
designator U?
footprint TO92A
pins: 1 VCC, 2 OUT, 3 GND

## LM78XX
designator U?, comment LM7805
footprint TO220_1
footprint TO252-3
pins: 1 IN, 2 GND, 3 OUT

## LM324
designator U?
footprint DIP14
footprint SOIC 14
part A pins: 1 (out), 2 - (in), 3 + (in), 4 VCC, 11 GND
part B pins: 5 + (in), 6 - (in), 7 Out (out)
part C pins: 8 Out (out), 9 - (in), 10 + (in)
part D pins: 12 + (in), 13 - (in), 14 Out (out)

## LM334
designator IC?
footprint TO92A
pins: 1 V+, 2 R, 3 V-

## LM358
designator U?
footprint DIP8
part A pins: 1 3 (out), 2 - (in), 3 + (in), 4 GND, 8 VCC
part B pins: 5 + (in), 6 - (in), 7 3 (out)

## LM1117T
designator IC?, comment 3.3V
footprint TO220AB
footprint TO220AH1
footprint TO220AH2
footprint TO220AH3
footprint SOT223_L
footprint SOT223_M
footprint SOT223_N
pins: 1 GND, 2, 3
text: IN; OUT

## LM2576
designator IC?
footprint TO220_5
footprint TO263-5
pins: 1 IN, 2 OUT, 3 GND, 4 FEEDBACK, 5 ON/OFF

## LM2596
designator IC?, comment ADJ BUCK ADJ 3A
footprint TO263-5
footprint TO220_5
footprint TO220_5
pins: 1 14, 2 18, 3 16, 4 17, 5 15
text: Feedback; Vin; ON/OFF; GND; Output

## LM7805 SMD
designator U?, comment LM7805
footprint TO252-3
pins: 1 IN, 2 GND, 3 OUT

## LM7905
designator IC?
footprint TO220A
pins: 1 GND, 2 IN, 3 OUT

## LPT
designator D25
footprint DB25P
footprint DB25S

## Matrix 8x8
designator Matrix?
footprint MATRIX 8X8
pins: 1, 2, 3, 4, 5, 6, 7, 8, 9, 10, 11, 12, 13, 14, 15, 16

## MAX232
designator U?
footprint DIP16
pins: 1 C1+, 2 V+, 3 C1-, 4 C2+, 5 C2-, 6 V-, 7 T2out, 8 R2in, 9 R2out, 10 T2in, 11 T1in, 12 R1out, 13 R1in, 14 T1out, 15 GND, 16 VCC

## MAX485
designator U?
footprint DIP8
footprint SOIC 8
pins: 1 R0, 2 ~{RE}, 3 DE, 4 DI, 5 GND, 6 A, 7 B, 8 VCC

## MC34063
designator IC?
footprint DIP8
pins: 1 SC, 2 SE, 3 CAP, 4 GND, 5 VFB, 6 VCC, 7 ISEN, 8 DRC

## MCP3004
designator U?
footprint DIP14
footprint SOIC 14
footprint TSSOP 14
pins: 1 CH0, 2 CH1, 3 CH2, 4 CH3, 5 NC, 6 NC, 7 DGND, 8 ~{CS}, 9 DIN, 10 DOUT, 11 CLK, 12 AGND, 13 Vref, 14 VDD

## MCP3008
designator U?
footprint DIP16
footprint SOIC 16
pins: 1 CH0, 2 CH1, 3 CH2, 4 CH3, 5 CH4, 6 CH5, 7 CH6, 8 CH7, 9 DGND, 10 ~{CS}, 11 DIN, 12 DOUT, 13 CLK, 14 AGND, 15 Vref, 16 VDD

## MOC3041
designator U?, comment OptoTriac
footprint DIP 6
pins: 1 A, 2 K, 4 A/K, 6 A/K

## Motor
designator B?
Published: 24-Mar-1999; LatestRevisionDate: 17-Jul-2002; LatestRevisionNote: Re-released for DXP Platform.; PackageReference: RB5-10.5; Publisher: Altium Limited; PackageDescription: Capacitor (Radial); 2 Leads
footprint HEADER 2A
pins: 1, 2
text: M

## Motor Servo
designator B?
Published: 24-Mar-1999; LatestRevisionDate: 17-Jul-2002; LatestRevisionNote: Re-released for DXP Platform.; PackageReference: RAD-0.4; Publisher: Altium Limited; PackageDescription: Radial Cap, Thru-Hole; 2 Leads; 0.4 in Pin Spacing
footprint HEADER 2A
pins: 1 +, 2 -
text: A

## NPN
designator Q?
Published: 8-Jun-2000; LatestRevisionDate: 17-Jul-2002; LatestRevisionNote: Re-released for DXP Platform.; PackageReference: TO-226-AA; Publisher: Altium Limited; PackageDescription: TO, Flat Index; 3 In-Line, Axial Leads; Body Dia. 4.8mm; Leads 0.55 x 0.51 mm (max); Code_JEDEC: TO-226-AA
footprint TO226A
pins: 1 C, 2 B, 3 E

## NPN SMD
designator *
footprint SOT23-3
pins: 1 E, 2 C, 3 B

## NTC-MF58 100K
designator R?, comment Temp
footprint Diode Zener
pins: 1, 2

## Opto Transitor
designator U?
Published: 24-Mar-1999; LatestRevisionDate: 04-Mar-2005; LatestRevisionNote: Sch pins 3 & 4 Swapped.; DatasheetVersion: Nov-2003; PackageReference: DIP-4; Publisher: Altium Limited
footprint DIP 4
pins: 1 A "Anode", 2 K "Cathode", 3 E "Emitter", 4 C "Collector"

## Opto TRIAC
designator U?
Published: 24-Mar-1999; LatestRevisionDate: 17-Jul-2002; LatestRevisionNote: Re-released for DXP Platform.; PackageReference: NPSIP4A; Publisher: Altium Limited; PackageDescription: SIP; 4 Leads; Body 10 x 11.5 x 7.5 mm (typ); Pitch 2.54 mm
footprint DIP 4
pins: 1 A, 2 K, 3 A/K, 4 A/K

## PIC16F88
designator U?
footprint DIP18
pins: 1 RA2/AN2, 2 RA3/AN3, 3 RA4/AN4, 4 RA5/~{MCLR}, 5 GND, 6 RB0/INT, 7 RB1/SDA, 8 RB2/RX, 9 RB3/PGM, 10 SLK/RB4, 11 TX/RB5, 12 PGC/RB6, 13 PGD/RB7, 14 VCC, 15 OSC1/RA6, 16 OSC2/RA7, 17 AN0/RA0, 18 AN1/RA1

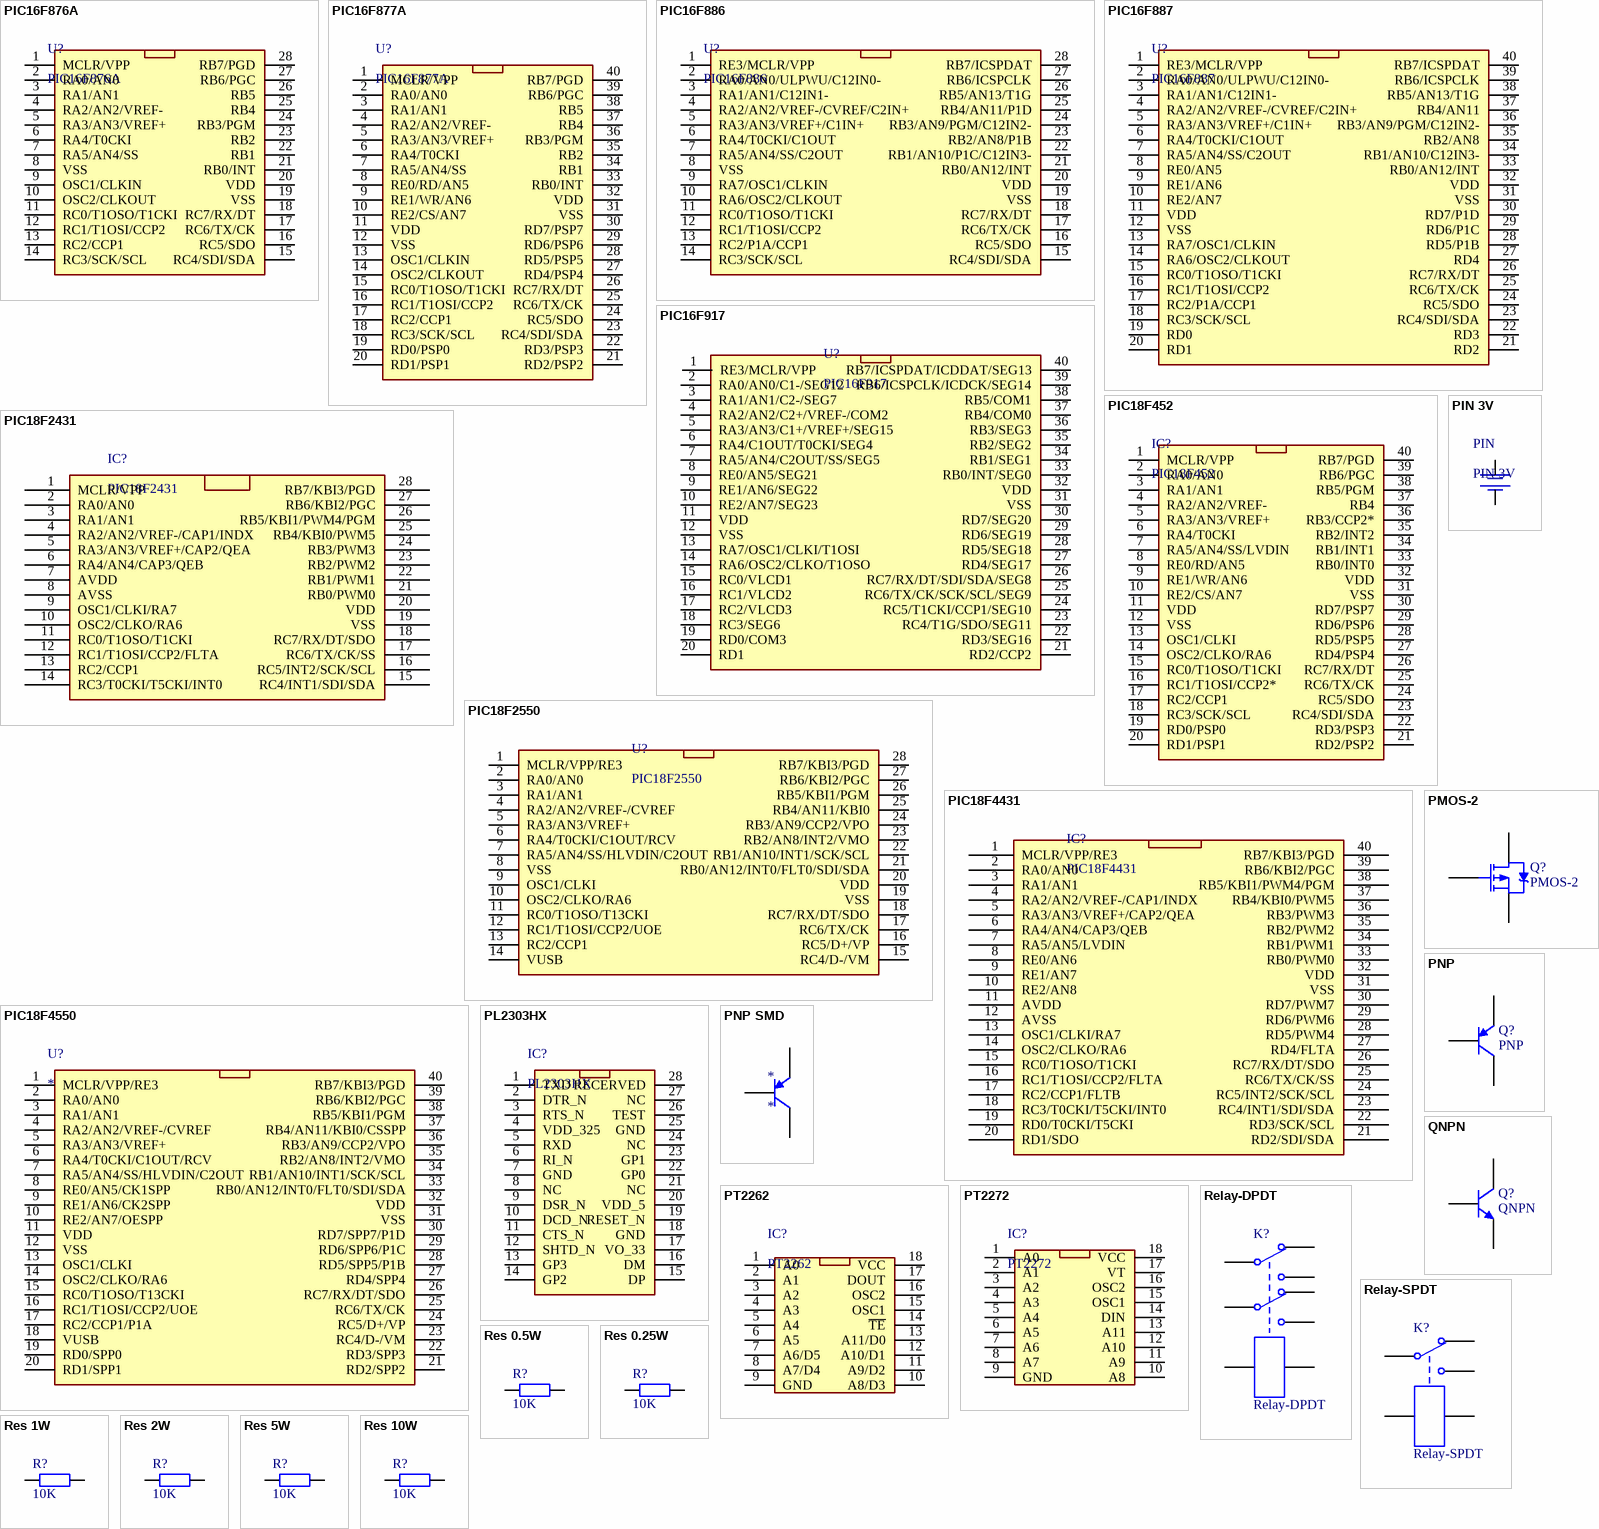
[diagram p5: symbols PIC16F876A to Res 10W]

## PIC16F876A
designator U?
footprint DIP28
footprint QFN 28
pins: 1 MCLR/VPP, 2 RA0/AN0, 3 RA1/AN1, 4 RA2/AN2/VREF-, 5 RA3/AN3/VREF+, 6 RA4/T0CKI, 7 RA5/AN4/SS, 8 VSS, 9 OSC1/CLKIN, 10 OSC2/CLKOUT, 11 RC0/T1OSO/T1CKI, 12 RC1/T1OSI/CCP2, 13 RC2/CCP1, 14 RC3/SCK/SCL, 15 RC4/SDI/SDA, 16 RC5/SDO, 17 RC6/TX/CK, 18 RC7/RX/DT, 19 VSS, 20 VDD, 21 RB0/INT, 22 RB1, 23 RB2, 24 RB3/PGM, 25 RB4, 26 RB5, 27 RB6/PGC, 28 RB7/PGD

## PIC16F877A
designator U?
footprint DIP40
footprint TQFP44
footprint QFN 44
pins: 1 MCLR/VPP, 2 RA0/AN0, 3 RA1/AN1, 4 RA2/AN2/VREF-, 5 RA3/AN3/VREF+, 6 RA4/T0CKI, 7 RA5/AN4/SS, 8 RE0/RD/AN5, 9 RE1/WR/AN6, 10 RE2/CS/AN7, 11 VDD, 12 VSS, 13 OSC1/CLKIN, 14 OSC2/CLKOUT, 15 RC0/T1OSO/T1CKI, 16 RC1/T1OSI/CCP2, 17 RC2/CCP1, 18 RC3/SCK/SCL, 19 RD0/PSP0, 20 RD1/PSP1, 21 RD2/PSP2, 22 RD3/PSP3, 23 RC4/SDI/SDA, 24 RC5/SDO, 25 RC6/TX/CK, 26 RC7/RX/DT, 27 RD4/PSP4, 28 RD5/PSP5, 29 RD6/PSP6, 30 RD7/PSP7, 31 VSS, 32 VDD, 33 RB0/INT, 34 RB1, 35 RB2, 36 RB3/PGM, 37 RB4, 38 RB5, 39 RB6/PGC, 40 RB7/PGD

## PIC16F886
designator U?
footprint DIP28
footprint QFN 28
pins: 1 RE3/MCLR/VPP, 2 RA0/AN0/ULPWU/C12IN0-, 3 RA1/AN1/C12IN1-, 4 RA2/AN2/VREF-/CVREF/C2IN+, 5 RA3/AN3/VREF+/C1IN+, 6 RA4/T0CKI/C1OUT, 7 RA5/AN4/SS/C2OUT, 8 VSS, 9 RA7/OSC1/CLKIN, 10 RA6/OSC2/CLKOUT, 11 RC0/T1OSO/T1CKI, 12 RC1/T1OSI/CCP2, 13 RC2/P1A/CCP1, 14 RC3/SCK/SCL, 15 RC4/SDI/SDA, 16 RC5/SDO, 17 RC6/TX/CK, 18 RC7/RX/DT, 19 VSS, 20 VDD, 21 RB0/AN12/INT, 22 RB1/AN10/P1C/C12IN3-, 23 RB2/AN8/P1B, 24 RB3/AN9/PGM/C12IN2-, 25 RB4/AN11/P1D, 26 RB5/AN13/T1G, 27 RB6/ICSPCLK, 28 RB7/ICSPDAT

## PIC16F887
designator U?
footprint DIP40
footprint QFN 44
footprint TQFP44
pins: 1 RE3/MCLR/VPP, 2 RA0/AN0/ULPWU/C12IN0-, 3 RA1/AN1/C12IN1-, 4 RA2/AN2/VREF-/CVREF/C2IN+, 5 RA3/AN3/VREF+/C1IN+, 6 RA4/T0CKI/C1OUT, 7 RA5/AN4/SS/C2OUT, 8 RE0/AN5, 9 RE1/AN6, 10 RE2/AN7, 11 VDD, 12 VSS, 13 RA7/OSC1/CLKIN, 14 RA6/OSC2/CLKOUT, 15 RC0/T1OSO/T1CKI, 16 RC1/T1OSI/CCP2, 17 RC2/P1A/CCP1, 18 RC3/SCK/SCL, 19 RD0, 20 RD1, 21 RD2, 22 RD3, 23 RC4/SDI/SDA, 24 RC5/SDO, 25 RC6/TX/CK, 26 RC7/RX/DT, 27 RD4, 28 RD5/P1B, 29 RD6/P1C, 30 RD7/P1D, 31 VSS, 32 VDD, 33 RB0/AN12/INT, 34 RB1/AN10/C12IN3-, 35 RB2/AN8, 36 RB3/AN9/PGM/C12IN2-, 37 RB4/AN11, 38 RB5/AN13/T1G, 39 RB6/ICSPCLK, 40 RB7/ICSPDAT

## PIC16F917
designator U?
footprint DIP40
footprint TQFP44
footprint QFN 44
pins: 1 RE3/MCLR/VPP, 2 RA0/AN0/C1-/SEG12, 3 RA1/AN1/C2-/SEG7, 4 RA2/AN2/C2+/VREF-/COM2, 5 RA3/AN3/C1+/VREF+/SEG15, 6 RA4/C1OUT/T0CKI/SEG4, 7 RA5/AN4/C2OUT/SS/SEG5, 8 RE0/AN5/SEG21, 9 RE1/AN6/SEG22, 10 RE2/AN7/SEG23, 11 VDD, 12 VSS, 13 RA7/OSC1/CLKI/T1OSI, 14 RA6/OSC2/CLKO/T1OSO, 15 RC0/VLCD1, 16 RC1/VLCD2, 17 RC2/VLCD3, 18 RC3/SEG6, 19 RD0/COM3, 20 RD1, 21 RD2/CCP2, 22 RD3/SEG16, 23 RC4/T1G/SDO/SEG11, 24 RC5/T1CKI/CCP1/SEG10, 25 RC6/TX/CK/SCK/SCL/SEG9, 26 RC7/RX/DT/SDI/SDA/SEG8, 27 RD4/SEG17, 28 RD5/SEG18, 29 RD6/SEG19, 30 RD7/SEG20, 31 VSS, 32 VDD, 33 RB0/INT/SEG0, 34 RB1/SEG1, 35 RB2/SEG2, 36 RB3/SEG3, 37 RB4/COM0, 38 RB5/COM1, 39 RB6/ICSPCLK/ICDCK/SEG14, 40 RB7/ICSPDAT/ICDDAT/SEG13

## PIC18F452
designator IC?
footprint DIP40
footprint TQFP44
pins: 1 MCLR/VPP, 2 RA0/AN0, 3 RA1/AN1, 4 RA2/AN2/VREF-, 5 RA3/AN3/VREF+, 6 RA4/T0CKI, 7 RA5/AN4/SS/LVDIN, 8 RE0/RD/AN5, 9 RE1/WR/AN6, 10 RE2/CS/AN7, 11 VDD, 12 VSS, 13 OSC1/CLKI, 14 OSC2/CLKO/RA6, 15 RC0/T1OSO/T1CKI, 16 RC1/T1OSI/CCP2*, 17 RC2/CCP1, 18 RC3/SCK/SCL, 19 RD0/PSP0, 20 RD1/PSP1, 21 RD2/PSP2, 22 RD3/PSP3, 23 RC4/SDI/SDA, 24 RC5/SDO, 25 RC6/TX/CK, 26 RC7/RX/DT, 27 RD4/PSP4, 28 RD5/PSP5, 29 RD6/PSP6, 30 RD7/PSP7, 31 VSS, 32 VDD, 33 RB0/INT0, 34 RB1/INT1, 35 RB2/INT2, 36 RB3/CCP2*, 37 RB4, 38 RB5/PGM, 39 RB6/PGC, 40 RB7/PGD

## PIC18F2431
designator IC?
footprint DIP28
footprint QFN 28
pins: 1 MCLR/VPP, 2 RA0/AN0, 3 RA1/AN1, 4 RA2/AN2/VREF-/CAP1/INDX, 5 RA3/AN3/VREF+/CAP2/QEA, 6 RA4/AN4/CAP3/QEB, 7 AVDD, 8 AVSS, 9 OSC1/CLKI/RA7, 10 OSC2/CLKO/RA6, 11 RC0/T1OSO/T1CKI, 12 RC1/T1OSI/CCP2/FLTA, 13 RC2/CCP1, 14 RC3/T0CKI/T5CKI/INT0, 15 RC4/INT1/SDI/SDA, 16 RC5/INT2/SCK/SCL, 17 RC6/TX/CK/SS, 18 RC7/RX/DT/SDO, 19 VSS, 20 VDD, 21 RB0/PWM0, 22 RB1/PWM1, 23 RB2/PWM2, 24 RB3/PWM3, 25 RB4/KBI0/PWM5, 26 RB5/KBI1/PWM4/PGM, 27 RB6/KBI2/PGC, 28 RB7/KBI3/PGD

## PIC18F2550
designator U?
footprint DIP28
footprint SOIC 28
pins: 1 MCLR/VPP/RE3, 2 RA0/AN0, 3 RA1/AN1, 4 RA2/AN2/VREF-/CVREF, 5 RA3/AN3/VREF+, 6 RA4/T0CKI/C1OUT/RCV, 7 RA5/AN4/SS/HLVDIN/C2OUT, 8 VSS, 9 OSC1/CLKI, 10 OSC2/CLKO/RA6, 11 RC0/T1OSO/T13CKI, 12 RC1/T1OSI/CCP2/UOE, 13 RC2/CCP1, 14 VUSB, 15 RC4/D-/VM, 16 RC5/D+/VP, 17 RC6/TX/CK, 18 RC7/RX/DT/SDO, 19 VSS, 20 VDD, 21 RB0/AN12/INT0/FLT0/SDI/SDA, 22 RB1/AN10/INT1/SCK/SCL, 23 RB2/AN8/INT2/VMO, 24 RB3/AN9/CCP2/VPO, 25 RB4/AN11/KBI0, 26 RB5/KBI1/PGM, 27 RB6/KBI2/PGC, 28 RB7/KBI3/PGD

## PIC18F4431
designator IC?
footprint DIP40
footprint TQFP44
footprint QFN 44
pins: 1 MCLR/VPP/RE3, 2 RA0/AN0, 3 RA1/AN1, 4 RA2/AN2/VREF-/CAP1/INDX, 5 RA3/AN3/VREF+/CAP2/QEA, 6 RA4/AN4/CAP3/QEB, 7 RA5/AN5/LVDIN, 8 RE0/AN6, 9 RE1/AN7, 10 RE2/AN8, 11 AVDD, 12 AVSS, 13 OSC1/CLKI/RA7, 14 OSC2/CLKO/RA6, 15 RC0/T1OSO/T1CKI, 16 RC1/T1OSI/CCP2/FLTA, 17 RC2/CCP1/FLTB, 18 RC3/T0CKI/T5CKI/INT0, 19 RD0/T0CKI/T5CKI, 20 RD1/SDO, 21 RD2/SDI/SDA, 22 RD3/SCK/SCL, 23 RC4/INT1/SDI/SDA, 24 RC5/INT2/SCK/SCL, 25 RC6/TX/CK/SS, 26 RC7/RX/DT/SDO, 27 RD4/FLTA, 28 RD5/PWM4, 29 RD6/PWM6, 30 RD7/PWM7, 31 VSS, 32 VDD, 33 RB0/PWM0, 34 RB1/PWM1, 35 RB2/PWM2, 36 RB3/PWM3, 37 RB4/KBI0/PWM5, 38 RB5/KBI1/PWM4/PGM, 39 RB6/KBI2/PGC, 40 RB7/KBI3/PGD

## PIC18F4550
designator U?
footprint DIP40
footprint TQFP44
pins: 1 MCLR/VPP/RE3, 2 RA0/AN0, 3 RA1/AN1, 4 RA2/AN2/VREF-/CVREF, 5 RA3/AN3/VREF+, 6 RA4/T0CKI/C1OUT/RCV, 7 RA5/AN4/SS/HLVDIN/C2OUT, 8 RE0/AN5/CK1SPP, 9 RE1/AN6/CK2SPP, 10 RE2/AN7/OESPP, 11 VDD, 12 VSS, 13 OSC1/CLKI, 14 OSC2/CLKO/RA6, 15 RC0/T1OSO/T13CKI, 16 RC1/T1OSI/CCP2/UOE, 17 RC2/CCP1/P1A, 18 VUSB, 19 RD0/SPP0, 20 RD1/SPP1, 21 RD2/SPP2, 22 RD3/SPP3, 23 RC4/D-/VM, 24 RC5/D+/VP, 25 RC6/TX/CK, 26 RC7/RX/DT/SDO, 27 RD4/SPP4, 28 RD5/SPP5/P1B, 29 RD6/SPP6/P1C, 30 RD7/SPP7/P1D, 31 VSS, 32 VDD, 33 RB0/AN12/INT0/FLT0/SDI/SDA, 34 RB1/AN10/INT1/SCK/SCL, 35 RB2/AN8/INT2/VMO, 36 RB3/AN9/CCP2/VPO, 37 RB4/AN11/KBI0/CSSPP, 38 RB5/KBI1/PGM, 39 RB6/KBI2/PGC, 40 RB7/KBI3/PGD

## PIN 3V
designator PIN
footprint PIN_3V
footprint CR1220
pins: 1, 2

## PL2303HX
designator IC?
footprint SSOP 28
pins: 1 TXD, 2 DTR_N, 3 RTS_N, 4 VDD_325, 5 RXD, 6 RI_N, 7 GND, 8 NC, 9 DSR_N, 10 DCD_N, 11 CTS_N, 12 SHTD_N, 13 GP3, 14 GP2, 15 DP, 16 DM, 17 VO_33, 18 GND, 19 RESET_N, 20 VDD_5, 21 NC, 22 GP0, 23 GP1, 24 NC, 25 GND, 26 TEST, 27 NC, 28 RECERVED

## PMOS-2
designator Q?
Note: Pin 4 not drawn and electrically connected to Pin 2.; Published: 8-Jun-2000; LatestRevisionDate: 17-Jul-2002; LatestRevisionNote: Re-released for DXP Platform.; DatasheetVersion: PD-9.390D; PackageVersion: Feb-1997; PackageReference: TO-220AB; Publisher: Altium Limited; PackageDescription: TO, Thru-Hole, Vertical, Heatsink Mounted; 3 In-Line Leads; Pitch 2.54 mm; ComponentLink1Description: Manufacturer Link; ComponentLink1URL: http://www.irf.com/
footprint TO220AB
pins: 1 G, 2 D, 3 S

## PNP
designator Q?
Published: 8-Jun-2000; LatestRevisionDate: 29-May-2009; LatestRevisionNote: IPC-7351 Footprint Added.; PackageVersion: Aug-1999; PackageReference: SOT-23B; Publisher: Altium Limited; PackageDescription: 3-Pin SOT-23 Package 0.95 mm Pitch, 2.4 mm Lead Span
footprint SOT23-3
pins: 1 C, 2 B, 3 E

## PNP SMD
designator *
footprint SOT23-3
pins: 1 E, 2 C, 3 B

## PT2262
designator IC?
Thông s? k? thu?t: IC phát sóng RF
footprint DIP18
footprint SOP20-300mm
pins: 1 A0, 2 A1, 3 A2, 4 A3, 5 A4, 6 A5, 7 A6/D5, 8 A7/D4, 9 GND, 10 A8/D3, 11 A9/D2, 12 A10/D1, 13 A11/D0, 14 ~{TE}, 15 OSC1, 16 OSC2, 17 DOUT, 18 VCC

## PT2272
designator IC?
Thông s? k? thu?t: IC nh?n sóng RF
footprint DIP18
footprint SOP20-300mm
pins: 1 A0, 2 A1, 3 A2, 4 A3, 5 A4, 6 A5, 7 A6, 8 A7, 9 GND, 10 A8, 11 A9, 12 A10, 13 A11, 14 DIN, 15 OSC1, 16 OSC2, 17 VT, 18 VCC

## QNPN
designator Q?
Published: 8-Jun-2000; LatestRevisionDate: 29-May-2009; LatestRevisionNote: IPC-7351 Footprint Added.; PackageVersion: Aug-1999; PackageReference: SOT-23B; Publisher: Altium Limited; PackageDescription: 3-Pin SOT-23 Package 0.95 mm Pitch, 2.4 mm Lead Span
footprint SOT23-3
pins: 1 C, 2 B, 3 E

## Relay-DPDT
designator K?
Published: 24-Mar-1999; LatestRevisionDate: 17-Jul-2002; LatestRevisionNote: Re-released for DXP Platform.; PackageReference: DIP-P8; Publisher: Altium Limited; PackageDescription: Relay; 8 Leads
footprint RELAY_8_12V
footprint RELAY 1A
pins: 1, 2, 3, 4, 5, 6, 7, 8

## Relay-SPDT
designator K?
Published: 24-Mar-1999; LatestRevisionDate: 17-Jul-2002; LatestRevisionNote: Re-released for DXP Platform.; PackageReference: MODULE5B; Publisher: Altium Limited
footprint RELAY 5A
pins: 1, 2, 3, 4, 5

## Res 0.5W
designator R?, comment 10K
footprint RES 0.5W
pins: 1, 2

## Res 0.25W
designator R?, comment 10K
footprint RES 0.25A
footprint RES 0.25B
footprint RES 0.25C
pins: 1, 2

## Res 1W
designator R?, comment 10K
footprint RES 1W
pins: 1, 2

## Res 2W
designator R?, comment 10K
footprint RES 2W
pins: 1, 2

## Res 5W
designator R?, comment 10K
footprint RES 5W
footprint RES 5W 0.47J
pins: 1, 2

## Res 10W
designator R?, comment 10K
footprint RES 10W
pins: 1, 2

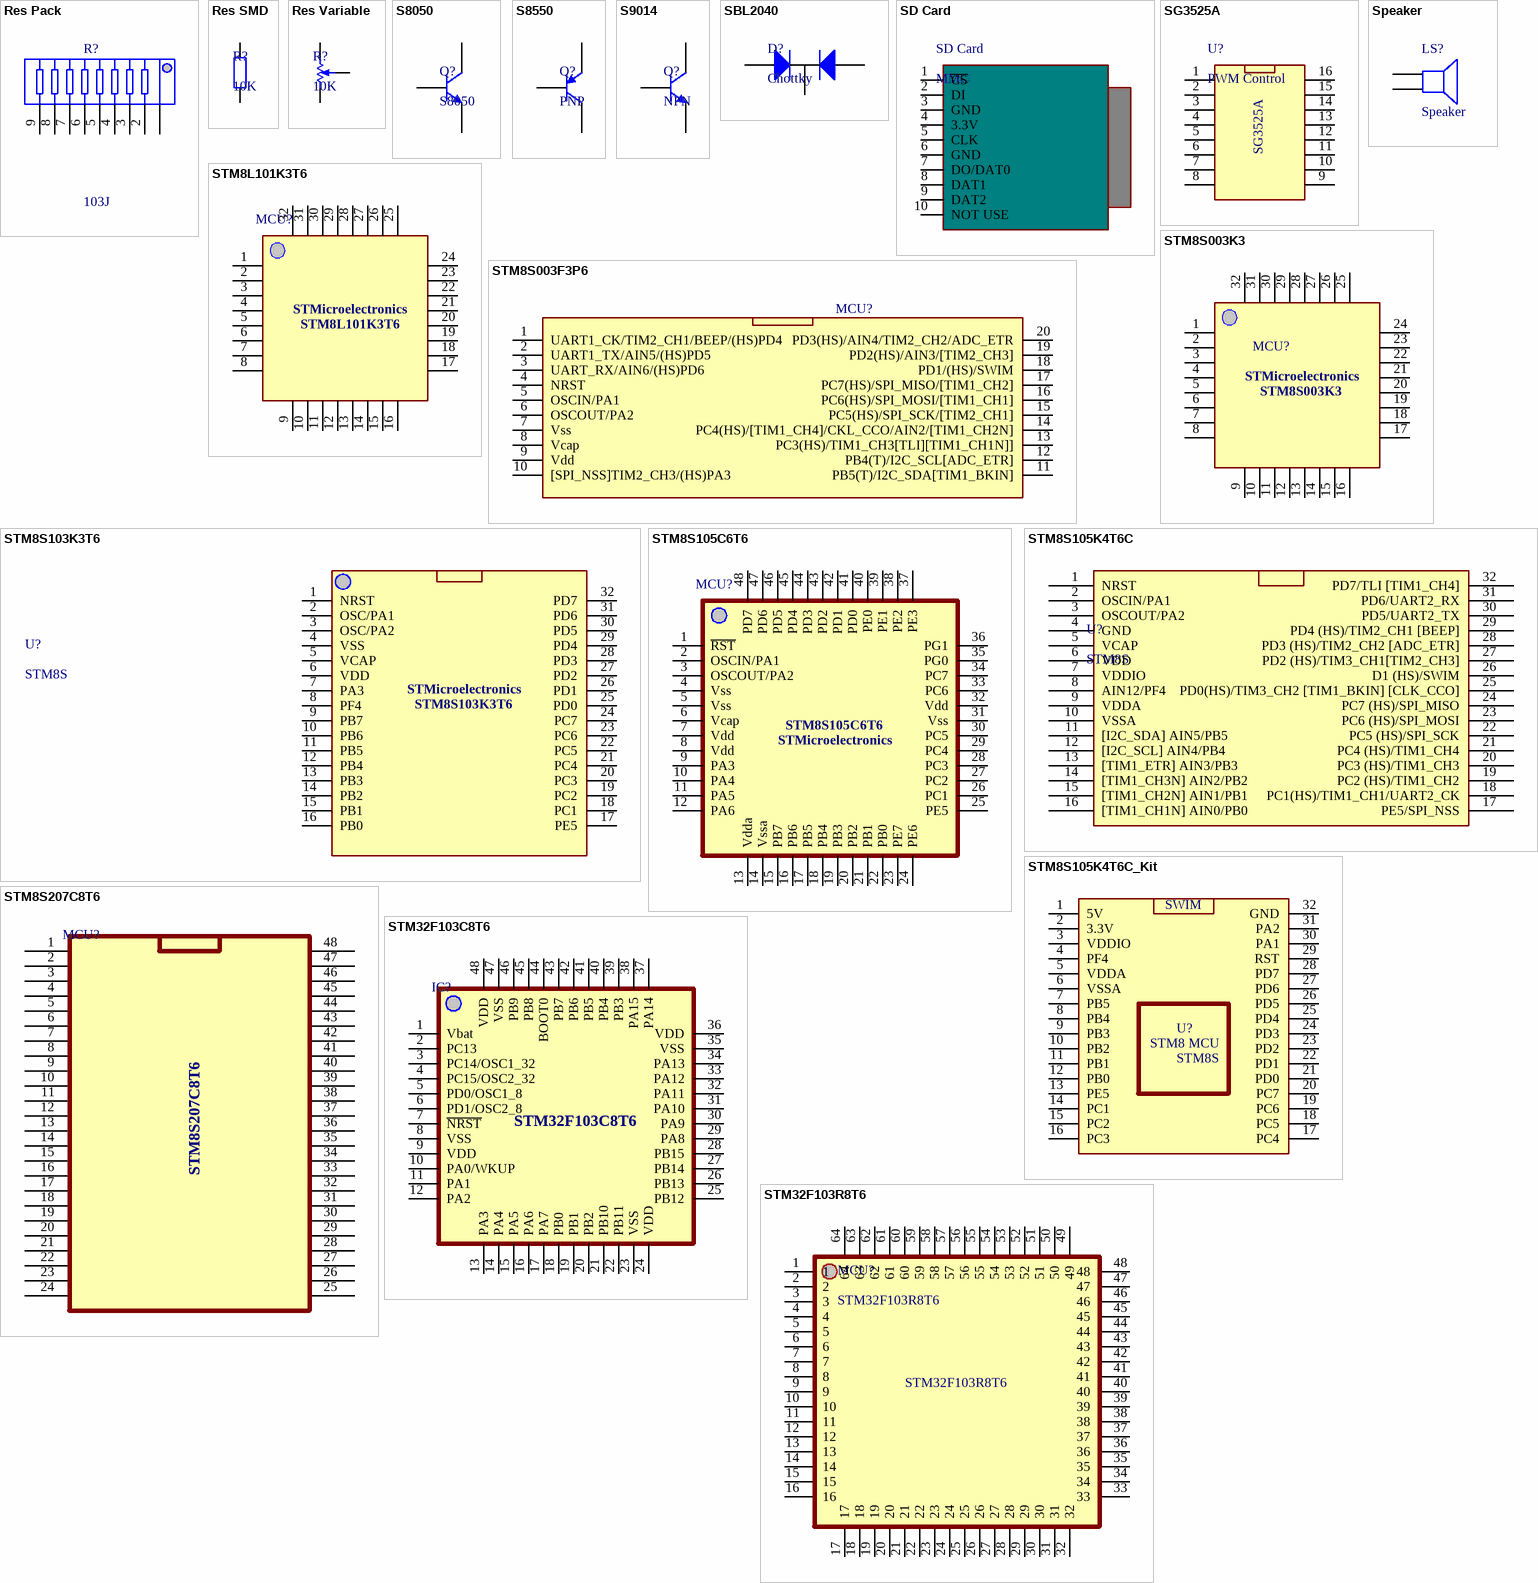
[diagram p6: symbols Res Pack to STM32F103R8T6]

## Res Pack
designator R?, comment 103J
Published: 24-Mar-1999; LatestRevisionDate: 29-May-2009; LatestRevisionNote: IPC-7351 Footprint Added.; PackageVersion: Oct-2003; PackageReference: SSOP16; Publisher: Altium Limited; PackageDescription: 16-Pin Plastic Small Outline Package 0.65 mm Pitch; Code_JEDEC: MO-150-AC; Code_IPC: SOP65P780-16
footprint RES PACK_8A
footprint RES PACK_8B
pins: 1, 2, 3, 4, 5, 6, 7, 8, 9

## Res SMD
designator R?, comment 10K
footprint RES SMD 0603
footprint RES SMD 0805
footprint SMD 1206
pins: 1, 2

## Res Variable
designator R?, comment 10K
footprint VR1
footprint VR2
footprint VR3
footprint VOLUME1
footprint VOLUME2
pins: 1 +, 2 W, 3 -

## S8050
designator Q?
footprint TO92A
footprint SOT23-3
pins: 1 E, 2 B, 3 C

## S8550
designator Q?, comment PNP
footprint SOT23-3
footprint TO92A
pins: 1 E, 2 B, 3 C

## S9014
designator Q?, comment NPN
footprint TO92A
pins: 1 E, 2 B, 3 C

## SBL2040
designator D?, comment Chottky
footprint TO220AB
pins: 1, 2, 3

## SD Card
designator SD Card, comment MMC
footprint SD Card
pins: 1 ~{CS}, 2 DI, 3 GND, 4 3.3V, 5 CLK, 6 GND, 7 DO/DAT0, 8 DAT1, 9 DAT2, 10 NOT USE

## SG3525A
designator U?, comment PWM Control
footprint DIP16
pins: 1, 2, 3, 4, 5, 6, 7, 8, 9, 10, 11, 12, 13, 14, 15, 16

## Speaker
designator LS?
Published: 24-Mar-1999; LatestRevisionDate: 17-Jul-2002; LatestRevisionNote: Re-released for DXP Platform.; PackageReference: PIN2; Publisher: Altium Limited
footprint Speak
pins: 1, 2

## STM8L101K3T6
designator MCU?  (value not drawn)
footprint LQFP32
pins: 1, 2, 3, 4, 5, 6, 7, 8, 9, 10, 11, 12, 13, 14, 15, 16, 17, 18, 19, 20, 21, 22, 23, 24, 25, 26, 27, 28, 29, 30, 31, 32
text: STMicroelectronics

## STM8S003F3P6
designator MCU?  (value not drawn)
footprint TSSOP 20
pins: 1 UART1_CK/TIM2_CH1/BEEP/(HS)PD4, 2 UART1_TX/AIN5/(HS)PD5, 3 UART_RX/AIN6/(HS)PD6, 4 NRST, 5 OSCIN/PA1, 6 OSCOUT/PA2, 7 Vss, 8 Vcap, 9 Vdd, 10 [SPI_NSS]TIM2_CH3/(HS)PA3, 11 PB5(T)/I2C_SDA[TIM1_BKIN], 12 PB4(T)/I2C_SCL[ADC_ETR], 13 PC3(HS)/TIM1_CH3[TLI][TIM1_CH1N]], 14 PC4(HS)/[TIM1_CH4]/CKL_CCO/AIN2/[TIM1_CH2N], 15 PC5(HS)/SPI_SCK/[TIM2_CH1], 16 PC6(HS)/SPI_MOSI/[TIM1_CH1], 17 PC7(HS)/SPI_MISO/[TIM1_CH2], 18 PD1/(HS)/SWIM, 19 PD2(HS)/AIN3/[TIM2_CH3], 20 PD3(HS)/AIN4/TIM2_CH2/ADC_ETR

## STM8S003K3
designator MCU?  (value not drawn)
footprint LQFP32
pins: 1, 2, 3, 4, 5, 6, 7, 8, 9, 10, 11, 12, 13, 14, 15, 16, 17, 18, 19, 20, 21, 22, 23, 24, 25, 26, 27, 28, 29, 30, 31, 32
text: STMicroelectronics

## STM8S103K3T6
designator U?, comment STM8S
footprint LQFP32
pins: 1 NRST, 2 OSC/PA1, 3 OSC/PA2, 4 VSS, 5 VCAP, 6 VDD, 7 PA3, 8 PF4, 9 PB7, 10 PB6, 11 PB5, 12 PB4, 13 PB3, 14 PB2, 15 PB1, 16 PB0, 17 PE5, 18 PC1, 19 PC2, 20 PC3, 21 PC4, 22 PC5, 23 PC6, 24 PC7, 25 PD0, 26 PD1, 27 PD2, 28 PD3, 29 PD4, 30 PD5, 31 PD6, 32 PD7
text: STMicroelectronics

## STM8S105C6T6
designator MCU?  (value not drawn)
footprint LQFP48
pins: 1 ~{RST}, 2 OSCIN/PA1, 3 OSCOUT/PA2, 4 Vss, 5 Vss, 6 Vcap, 7 Vdd, 8 Vdd, 9 PA3, 10 PA4, 11 PA5, 12 PA6, 13 Vdda, 14 Vssa, 15 PB7, 16 PB6, 17 PB5, 18 PB4, 19 PB3, 20 PB2, 21 PB1, 22 PB0, 23 PE7, 24 PE6, 25 PE5, 26 PC1, 27 PC2, 28 PC3, 29 PC4, 30 PC5, 31 Vss, 32 Vdd, 33 PC6, 34 PC7, 35 PG0, 36 PG1, 37 PE3, 38 PE2, 39 PE1, 40 PE0, 41 PD0, 42 PD1, 43 PD2, 44 PD3, 45 PD4, 46 PD5, 47 PD6, 48 PD7
text: STMicroelectronics

## STM8S105K4T6C
designator U?, comment STM8S
footprint LQFP32
pins: 1 NRST, 2 OSCIN/PA1, 3 OSCOUT/PA2, 4 GND, 5 VCAP, 6 VDD, 7 VDDIO, 8 AIN12/PF4, 9 VDDA, 10 VSSA, 11 [I2C_SDA] AIN5/PB5, 12 [I2C_SCL] AIN4/PB4, 13 [TIM1_ETR] AIN3/PB3, 14 [TIM1_CH3N] AIN2/PB2, 15 [TIM1_CH2N] AIN1/PB1, 16 [TIM1_CH1N] AIN0/PB0, 17 PE5/SPI_NSS, 18 PC1(HS)/TIM1_CH1/UART2_CK, 19 PC2 (HS)/TIM1_CH2, 20 PC3 (HS)/TIM1_CH3, 21 PC4 (HS)/TIM1_CH4, 22 PC5 (HS)/SPI_SCK, 23 PC6 (HS)/SPI_MOSI, 24 PC7 (HS)/SPI_MISO, 25 PD0(HS)/TIM3_CH2 [TIM1_BKIN] [CLK_CCO], 26 D1 (HS)/SWIM, 27 PD2 (HS)/TIM3_CH1[TIM2_CH3], 28 PD3 (HS)/TIM2_CH2 [ADC_ETR], 29 PD4 (HS)/TIM2_CH1 [BEEP], 30 PD5/UART2_TX, 31 PD6/UART2_RX, 32 PD7/TLI [TIM1_CH4]

## STM8S105K4T6C_Kit
designator U?, comment STM8S
footprint STM8S105K4T6C_Kit
pins: 1 5V, 2 3.3V, 3 VDDIO, 4 PF4, 5 VDDA, 6 VSSA, 7 PB5, 8 PB4, 9 PB3, 10 PB2, 11 PB1, 12 PB0, 13 PE5, 14 PC1, 15 PC2, 16 PC3, 17 PC4, 18 PC5, 19 PC6, 20 PC7, 21 PD0, 22 PD1, 23 PD2, 24 PD3, 25 PD4, 26 PD5, 27 PD6, 28 PD7, 29 RST, 30 PA1, 31 PA2, 32 GND
text: SWIM; STM8 MCU

## STM8S207C8T6
designator MCU?  (value not drawn)
footprint LQFP48
pins: 1, 2, 3, 4, 5, 6, 7, 8, 9, 10, 11, 12, 13, 14, 15, 16, 17, 18, 19, 20, 21, 22, 23, 24, 25, 26, 27, 28, 29, 30, 31, 32, 33, 34, 35, 36, 37, 38, 39, 40, 41, 42, 43, 44, 45, 46, 47, 48

## STM32F103C8T6
designator IC?  (value not drawn)
footprint LQFP48
pins: 1 Vbat, 2 PC13, 3 PC14/OSC1_32, 4 PC15/OSC2_32, 5 PD0/OSC1_8, 6 PD1/OSC2_8, 7 ~{NRST}, 8 VSS, 9 VDD, 10 PA0/WKUP, 11 PA1, 12 PA2, 13 PA3, 14 PA4, 15 PA5, 16 PA6, 17 PA7, 18 PB0, 19 PB1, 20 PB2, 21 PB10, 22 PB11, 23 VSS, 24 VDD, 25 PB12, 26 PB13, 27 PB14, 28 PB15, 29 PA8, 30 PA9, 31 PA10, 32 PA11, 33 PA12, 34 PA13, 35 VSS, 36 VDD, 37 PA14, 38 PA15, 39 PB3, 40 PB4, 41 PB5, 42 PB6, 43 PB7, 44 BOOT0, 45 PB8, 46 PB9, 47 VSS, 48 VDD

## STM32F103R8T6
designator MCU?
footprint LQFP64
pins: 1, 2, 3, 4, 5, 6, 7, 8, 9, 10, 11, 12, 13, 14, 15, 16, 17, 18, 19, 20, 21, 22, 23, 24, 25, 26, 27, 28, 29, 30, 31, 32, 33, 34, 35, 36, 37, 38, 39, 40, 41, 42, 43, 44, 45, 46, 47, 48, 49, 50, 51, 52, 53, 54, 55, 56, 57, 58, 59, 60, 61, 62, 63, 64

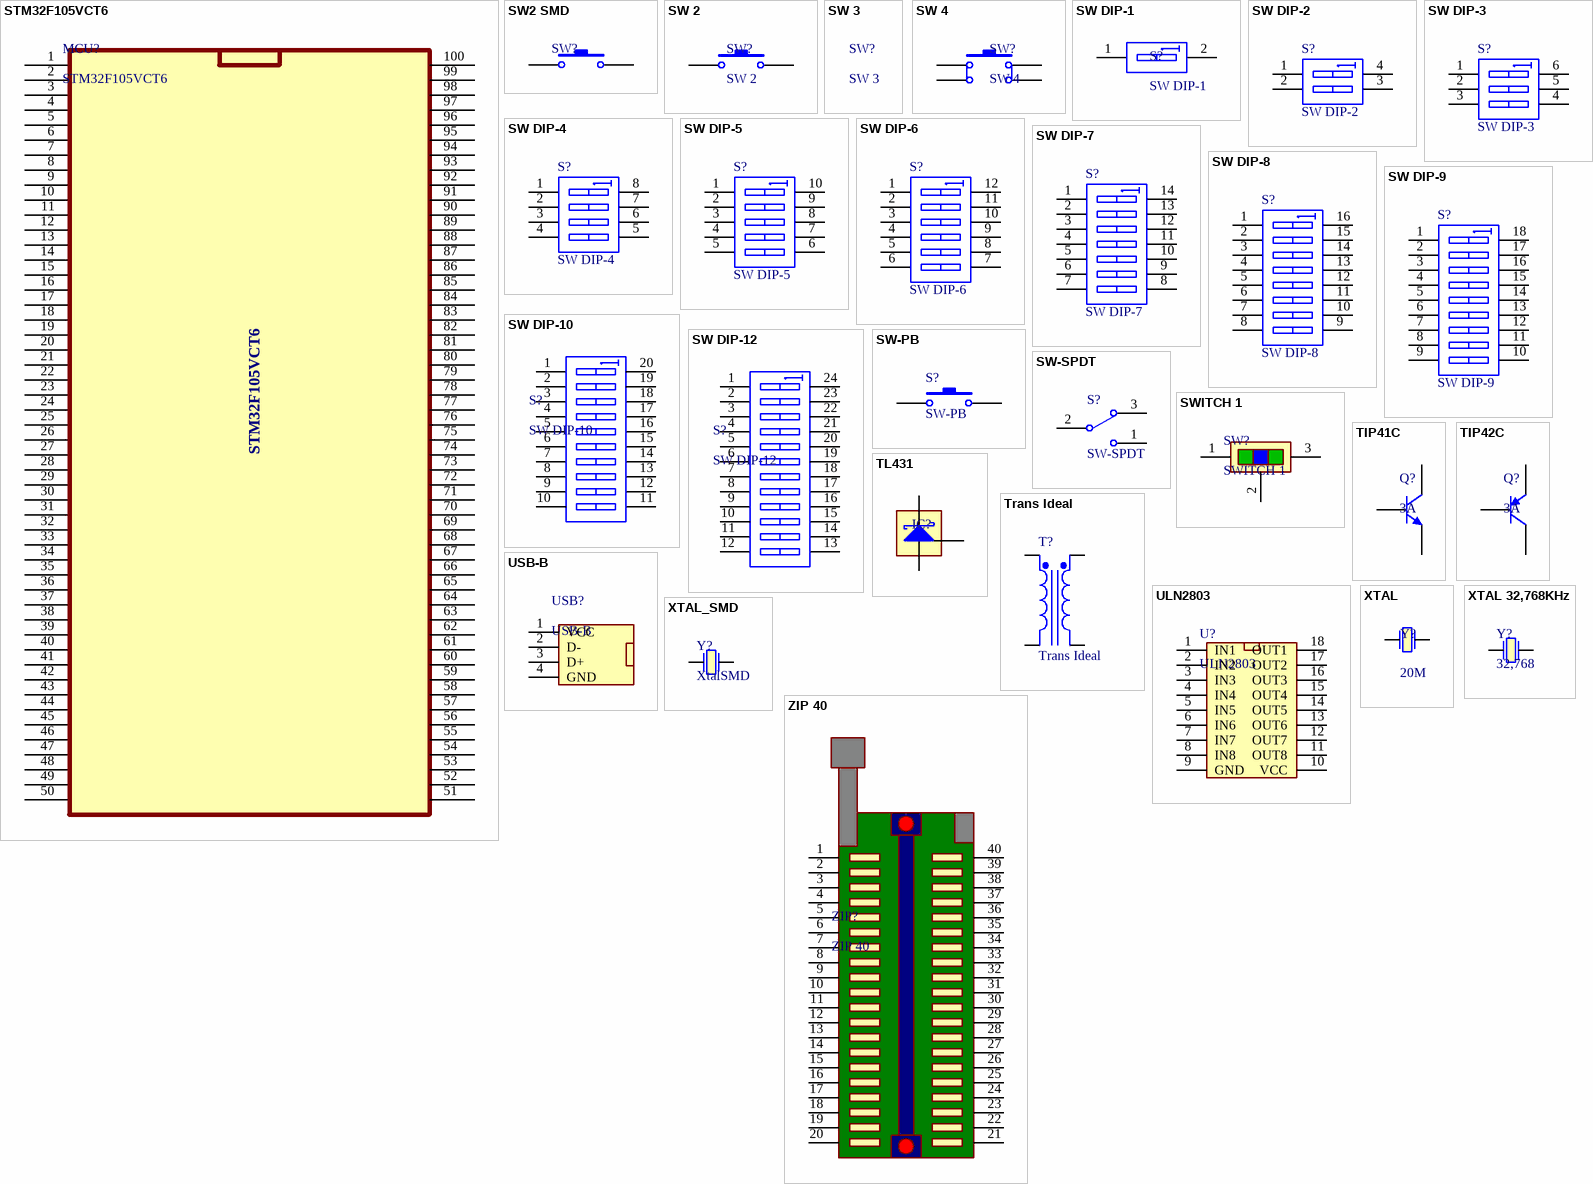
[diagram p7: symbols STM32F105VCT6 to ZIP 40]

## STM32F105VCT6
designator MCU?
footprint LQFP 100
pins: 1, 2, 3, 4, 5, 6, 7, 8, 9, 10, 11, 12, 13, 14, 15, 16, 17, 18, 19, 20, 21, 22, 23, 24, 25, 26, 27, 28, 29, 30, 31, 32, 33, 34, 35, 36, 37, 38, 39, 40, 41, 42, 43, 44, 45, 46, 47, 48, 49, 50, 51, 52, 53, 54, 55, 56, 57, 58, 59, 60, 61, 62, 63, 64, 65, 66, 67, 68, 69, 70, 71, 72, 73, 74, 75, 76, 77, 78, 79, 80, 81, 82, 83, 84, 85, 86, 87, 88, 89, 90, 91, 92, 93, 94, 95, 96, 97, 98, 99, 100

## SW2 SMD
designator SW?  (value not drawn)
footprint SW2-SMD
pins: 1, 2

## SW 2
designator SW?
footprint SW2-6mm
footprint SW2-SMD
footprint SW 4B
pins: 1, 2

## SW 3
designator SW?

## SW 4
designator SW?
footprint SW4-P
footprint SW4_6mm
footprint SW4_6mm_2
footprint SW 4A
pins: 1, 2, 3, 4

## SW DIP-1
designator S?
footprint DIP SWITCH 1
pins: 1 A1, 2 B1

## SW DIP-2
designator S?
Published: 24-Mar-1999; LatestRevisionDate: 17-Jul-2002; LatestRevisionNote: Re-released for DXP Platform.; PackageReference: DIP-4; Publisher: Altium Limited
footprint DIP SWITCH 2
pins: 1 A1, 2 A2, 3 B2, 4 B1

## SW DIP-3
designator S?
Published: 24-Mar-1999; LatestRevisionDate: 17-Jul-2002; LatestRevisionNote: Re-released for DXP Platform.; PackageReference: DIP-6; Publisher: Altium Limited; Code_JEDEC: MO-001-AM
footprint DIP SWITCH 3
pins: 1 A1, 2 A2, 3 A3, 4 B3, 5 B2, 6 B1

## SW DIP-4
designator S?
Published: 24-Mar-1999; LatestRevisionDate: 29-May-2009; LatestRevisionNote: IPC-7351 Footprint Added.; PackageVersion: Dec-2002; PackageReference: SO8; Publisher: Altium Limited; PackageDescription: 8-Pin Small Outline Integrated Circuit 1.27 mm Pitch; Code_JEDEC: MS-012-AA; Code_IPC: SOIC127P600-8
footprint DIP SWITCH 4
pins: 1 A1, 2 A2, 3 A3, 4 A4, 5 B4, 6 B3, 7 B2, 8 B1

## SW DIP-5
designator S?
Published: 24-Mar-1999; LatestRevisionDate: 17-Jul-2002; LatestRevisionNote: Re-released for DXP Platform.; PackageReference: N10A; Publisher: Altium Limited
footprint DIP SWITCH 5A
pins: 1 A1, 2 A2, 3 A3, 4 A4, 5 A5, 6 B5, 7 B4, 8 B3, 9 B2, 10 B1

## SW DIP-6
designator S?
Published: 24-Mar-1999; LatestRevisionDate: 17-Jul-2002; LatestRevisionNote: Re-released for DXP Platform.; PackageReference: DIP-12/SW; Publisher: Altium Limited; PackageDescription: DIP Switch; 12 Leads
footprint DIP SWITCH 6
pins: 1 A1, 2 A2, 3 A3, 4 A4, 5 A5, 6 A6, 7 B6, 8 B5, 9 B4, 10 B3, 11 B2, 12 B1

## SW DIP-7
designator S?
Published: 24-Mar-1999; LatestRevisionDate: 17-Jul-2002; LatestRevisionNote: Re-released for DXP Platform.; PackageReference: DIP-14; Publisher: Altium Limited; Code_JEDEC: MO-001-AF
footprint DIP SWITCH 7
pins: 1 A1, 2 A2, 3 A3, 4 A4, 5 A5, 6 A6, 7 A7, 8 B7, 9 B6, 10 B5, 11 B4, 12 B3, 13 B2, 14 B1